# Altium schematic symbol library dungvh03-CERN_AnalogInterface.SchLib: 1053 symbols (part 7 of 12)
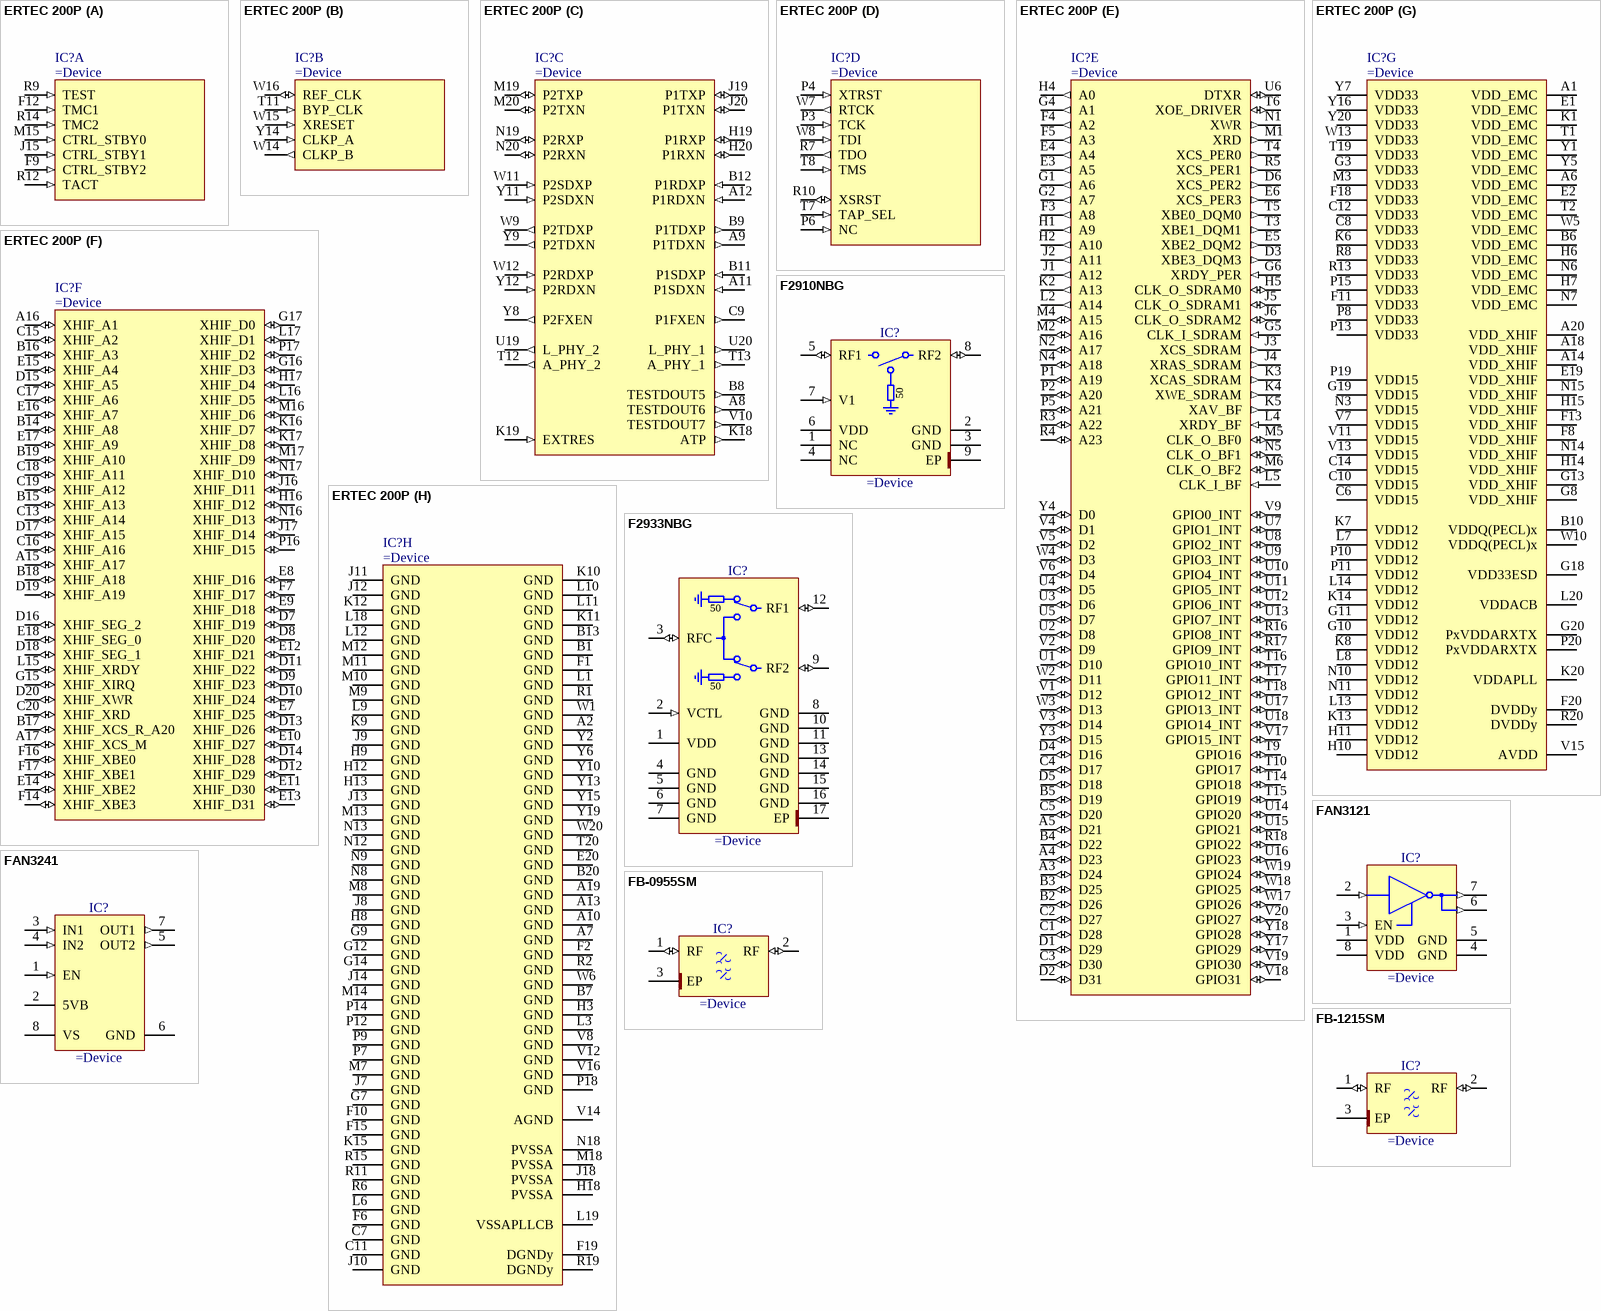
[diagram p73: symbols ERTEC 200P to FB-1215SM]

## ERTEC 200P
designator IC?
Enhanced Real-Time Ethernet Controller
part A pins: F9 CTRL_STBY2 (in), F12 TMC1 (in), J15 CTRL_STBY1 (in), M15 CTRL_STBY0 (in), R9 TEST (in), R12 TACT (in), R14 TMC2 (in)
part B pins: T11 BYP_CLK (in), W14 CLKP_B (out), W15 XRESET (in), W16 REF_CLK (io), Y14 CLKP_A (in)
part C pins: A8 TESTDOUT6 (out), A9 P1TDXN (out), A11 P1SDXN (in), A12 P1RDXN (in), B8 TESTDOUT5 (out), B9 P1TDXP (out), B11 P1SDXP (in), B12 P1RDXP (in), C9 P1FXEN (out), H19 P1RXP (io), H20 P1RXN (io), J19 P1TXP (io), J20 P1TXN (io), K18 ATP (out), K19 EXTRES (in), M19 P2TXP (io), M20 P2TXN (io), N19 P2RXP (io), N20 P2RXN (io), T12 A_PHY_2 (out), T13 A_PHY_1 (out), U19 L_PHY_2 (out), U20 L_PHY_1 (out), V10 TESTDOUT7 (out), W9 P2TDXP (out), W11 P2SDXP (in), W12 P2RDXP (in), Y8 P2FXEN (out), Y9 P2TDXN (out), Y11 P2SDXN (in), Y12 P2RDXN (in)
part D pins: P3 TCK (in), P4 XTRST (in), P6 NC (in), R7 TDO (out), R10 XSRST (io), T7 TAP_SEL (in), T8 TMS (in), W7 RTCK (out), W8 TDI (in)
part E pins: A3 D24 (io), A4 D23 (io), A5 D21 (io), B2 D26 (io), B3 D25 (io), B4 D22 (io), B5 D19 (io), C1 D28 (io), C2 D27 (io), C3 D30 (io), C4 D17 (io), C5 D20 (io), D1 D29 (io), D2 D31 (io), D3 XBE3_DQM3 (out), D4 D16 (io), D5 D18 (io), D6 XCS_PER2 (out), E3 A5 (out), E4 A4 (out), E5 XBE2_DQM2 (out), E6 XCS_PER3 (out), F3 A8 (out), F4 A2 (out), F5 A3 (out), G1 A6 (out), G2 A7 (out), G4 A1 (out), G5 CLK_I_SDRAM (in), G6 XRDY_PER (in), H1 A9 (out), H2 A10 (out), H4 A0 (out), H5 CLK_O_SDRAM0 (io), J1 A12 (out), J2 A11 (out), J3 XCS_SDRAM (out), J4 XRAS_SDRAM (out), J5 CLK_O_SDRAM1 (io), J6 CLK_O_SDRAM2 (io), K2 A13 (out), K3 XCAS_SDRAM (out), K4 XWE_SDRAM (out), K5 XAV_BF (out), L2 A14 (out), L4 XRDY_BF (in), L5 CLK_I_BF (in), M1 XRD (out), M2 A16 (io), M4 A15 (io), M5 CLK_O_BF0 (io), M6 CLK_O_BF2 (io), N1 XWR (out), N2 A17 (io), N4 A18 (io), N5 CLK_O_BF1 (io), P1 A19 (io), P2 A20 (io), P5 A21 (io), R3 A22 (io), R4 A23 (io), R5 XCS_PER1 (out), R16 GPIO8_INT (io), R17 GPIO9_INT (io), R18 GPIO22 (io), T3 XBE1_DQM1 (out), T4 XCS_PER0 (out), T5 XBE0_DQM0 (out), T6 XOE_DRIVER (io), T9 GPIO16 (io), T10 GPIO17 (io), T14 GPIO18 (io), T15 GPIO19 (io), T16 GPIO10_INT (io), T17 GPIO11_INT (io), T18 GPIO12_INT (io), U1 D10 (io), U2 D8 (io), U3 D6 (io), U4 D5 (io), U5 D7 (io), U6 DTXR (io), U7 GPIO1_INT (io), U8 GPIO2_INT (io), U9 GPIO3_INT (io), U10 GPIO4_INT (io), U11 GPIO5_INT (io), U12 GPIO6_INT (io), U13 GPIO7_INT (io), U14 GPIO20 (io), U15 GPIO21 (io), U16 GPIO23 (io), U17 GPIO13_INT (io), U18 GPIO14_INT (io), V1 D12 (io), V2 D9 (io), V3 D14 (io), V4 D1 (io), V5 D2 (io), V6 D4 (io), V9 GPIO0_INT (io), V17 GPIO15_INT (io), V18 GPIO31 (io), V19 GPIO30 (io), V20 GPIO27 (io), W2 D11 (io), W3 D13 (io), W4 D3 (io), W17 GPIO26 (io), W18 GPIO25 (io), W19 GPIO24 (io), Y3 D15 (io), Y4 D0 (io), Y17 GPIO29 (io), Y18 GPIO28 (io)
part F pins: A15 XHIF_A17 (io), A16 XHIF_A1 (io), A17 XHIF_XCS_M (io), B14 XHIF_A8 (io), B15 XHIF_A13 (io), B16 XHIF_A3 (io), B17 XHIF_XCS_R_A20 (io), B18 XHIF_A18 (io), B19 XHIF_A10 (io), C13 XHIF_A14 (io), C15 XHIF_A2 (io), C16 XHIF_A16 (io), C17 XHIF_A6 (io), C18 XHIF_A11 (io), C19 XHIF_A12 (io), C20 XHIF_XRD (io), D7 XHIF_D19 (io), D8 XHIF_D20 (io), D9 XHIF_D23 (io), D10 XHIF_D24 (io), D11 XHIF_D22 (io), D12 XHIF_D29 (io), D13 XHIF_D26 (io), D14 XHIF_D28 (io), D15 XHIF_A5 (io), D16 XHIF_SEG_2 (io), D17 XHIF_A15 (io), D18 XHIF_SEG_1 (io), D19 XHIF_A19 (io), D20 XHIF_XWR (io), E7 XHIF_D25 (io), E8 XHIF_D16 (io), E9 XHIF_D18 (io), E10 XHIF_D27 (io), E11 XHIF_D30 (io), E12 XHIF_D21 (io), E13 XHIF_D31 (io), E14 XHIF_XBE2 (io), E15 XHIF_A4 (io), E16 XHIF_A7 (io), E17 XHIF_A9 (io), E18 XHIF_SEG_0 (io), F7 XHIF_D17 (io), F14 XHIF_XBE3 (io), F16 XHIF_XBE0 (io), F17 XHIF_XBE1 (io), G15 XHIF_XIRQ (io), G16 XHIF_D3 (io), G17 XHIF_D0 (io), H16 XHIF_D12 (io), H17 XHIF_D4 (io), J16 XHIF_D11 (io), J17 XHIF_D14 (io), K16 XHIF_D7 (io), K17 XHIF_D8 (io), L15 XHIF_XRDY (io), L16 XHIF_D5 (io), L17 XHIF_D1 (io), M16 XHIF_D6 (io), M17 XHIF_D9 (io), N16 XHIF_D13 (io), N17 XHIF_D10 (io), P16 XHIF_D15 (io), P17 XHIF_D2 (io)
part G pins: A1 VDD_EMC (power), A6 VDD_EMC (power), A14 VDD_XHIF (power), A18 VDD_XHIF (power), A20 VDD_XHIF (power), B6 VDD_EMC (power), B10 VDDQ(PECL)x (power), C6 VDD15 (power), C8 VDD33 (power), C10 VDD15 (power), C12 VDD33 (power), C14 VDD15 (power), E1 VDD_EMC (power), E2 VDD_EMC (power), E19 VDD_XHIF (power), F8 VDD_XHIF (power), F11 VDD33 (power), F13 VDD_XHIF (power), F18 VDD33 (power), F20 DVDDy (power), G3 VDD33 (power), G8 VDD_XHIF (power), G10 VDD12 (power), G11 VDD12 (power), G13 VDD_XHIF (power), G18 VDD33ESD (power), G19 VDD15 (power), G20 PxVDDARXTX (power), H6 VDD_EMC (power), H7 VDD_EMC (power), H10 VDD12 (power), H11 VDD12 (power), H14 VDD_XHIF (power), H15 VDD_XHIF (power), K1 VDD_EMC (power), K6 VDD33 (power), K7 VDD12 (power), K8 VDD12 (power), K13 VDD12 (power), K14 VDD12 (power), K20 VDDAPLL (power), L7 VDD12 (power), L8 VDD12 (power), L13 VDD12 (power), L14 VDD12 (power), L20 VDDACB (power), M3 VDD33 (power), N3 VDD15 (power), N6 VDD_EMC (power), N7 VDD_EMC (power), N10 VDD12 (power), N11 VDD12 (power), N14 VDD_XHIF (power), N15 VDD_XHIF (power), P8 VDD33 (power), P10 VDD12 (power), P11 VDD12 (power), P13 VDD33 (power), P15 VDD33 (power), P19 VDD15 (power), P20 PxVDDARXTX (power), R8 VDD33 (power), R13 VDD33 (power), R20 DVDDy (power), T1 VDD_EMC (power), T2 VDD_EMC (power), T19 VDD33 (power), V7 VDD15 (power), V11 VDD15 (power), V13 VDD15 (power), V15 AVDD (power), W5 VDD_EMC (power), W10 VDDQ(PECL)x (power), W13 VDD33 (power), Y1 VDD_EMC (power), Y5 VDD_EMC (power), Y7 VDD33 (power), Y16 VDD33 (power), Y20 VDD33 (power)
part H pins: A2 GND (power), A7 GND (power), A10 GND (power), A13 GND (power), A19 GND (power), B1 GND (power), B7 GND (power), B13 GND (power), B20 GND (power), C7 GND (power), C11 GND (power), E20 GND (power), F1 GND (power), F2 GND (power), F6 GND (power), F10 GND (power), F15 GND (power), F19 DGNDy (power), G7 GND (power), G9 GND (power), G12 GND (power), G14 GND (power), H3 GND (power), H8 GND (power), H9 GND (power), H12 GND (power), H13 GND (power), H18 PVSSA (power), J7 GND (power), J8 GND (power), J9 GND (power), J10 GND (power), J11 GND (power), J12 GND (power), J13 GND (power), J14 GND (power), J18 PVSSA (power), K9 GND (power), K10 GND (power), K11 GND (power), K12 GND (power), K15 GND (power), L1 GND (power), L3 GND (power), L6 GND (power), L9 GND (power), L10 GND (power), L11 GND (power), L12 GND (power), L18 GND (power), L19 VSSAPLLCB (power), M7 GND (power), M8 GND (power), M9 GND (power), M10 GND (power), M11 GND (power), M12 GND (power), M13 GND (power), M14 GND (power), M18 PVSSA (power), N8 GND (power), N9 GND (power), N12 GND (power), N13 GND (power), N18 PVSSA (power), P7 GND (power), P9 GND (power), P12 GND (power), P14 GND (power), P18 GND (power), R1 GND (power), R2 GND (power), R6 GND (power), R11 GND (power), R15 GND (power), R19 DGNDy (power), T20 GND (power), V8 GND (power), V12 GND (power), V14 AGND (power), V16 GND (power), W1 GND (power), W6 GND (power), W20 GND (power), Y2 GND (power), Y6 GND (power), Y10 GND (power), Y13 GND (power), Y15 GND (power), Y19 GND (power)

## F2910NBG
designator IC?
High Reliability SPST Absorptive RF Switch with Kz
pins: 1 NC, 2 GND (power), 3 GND (power), 4 NC, 5 RF1 (io), 6 VDD (power), 7 V1 (in), 8 RF2 (io), 9 EP (power)
2 alternate drawings of the same symbol
text: 50

## F2933NBG
designator IC?
High Reliability SP2T Absorptive RF Switch
pins: 1 VDD (power), 2 VCTL (in), 3 RFC (io), 4 GND (power), 5 GND (power), 6 GND (power), 7 GND (power), 8 GND (power), 9 RF2 (io), 10 GND (power), 11 GND (power), 12 RF1 (io), 13 GND (power), 14 GND (power), 15 GND (power), 16 GND (power), 17 EP (power)
2 alternate drawings of the same symbol
text: 50

## FAN3121
designator IC?
Single 9A High-Speed, Low-Side Gate Driver
pins: 1 VDD (power), 2 IN (in), 3 EN (in), 4 GND (power), 5 GND (power), 6 ~{OUT} (out), 7 ~{OUT} (out), 8 VDD (power)

## FAN3241
designator IC?
60V Smart Dual-Coil Relay Driver
pins: 1 EN (in), 2 5VB, 3 IN1 (in), 4 IN2 (in), 5 OUT2 (out), 6 GND (power), 7 OUT1 (out), 8 VS (power)

## FB-0955SM
designator IC?
9.55GHz Microwave Surface Mount Band Pass Filter
pins: 1 RF (io), 2 RF (io), 3 EP (power)

## FB-1215SM
designator IC?
12.15GHz Microwave Surface Mount Band Pass Filter
pins: 1 RF (io), 2 RF (io), 3 EP (power)

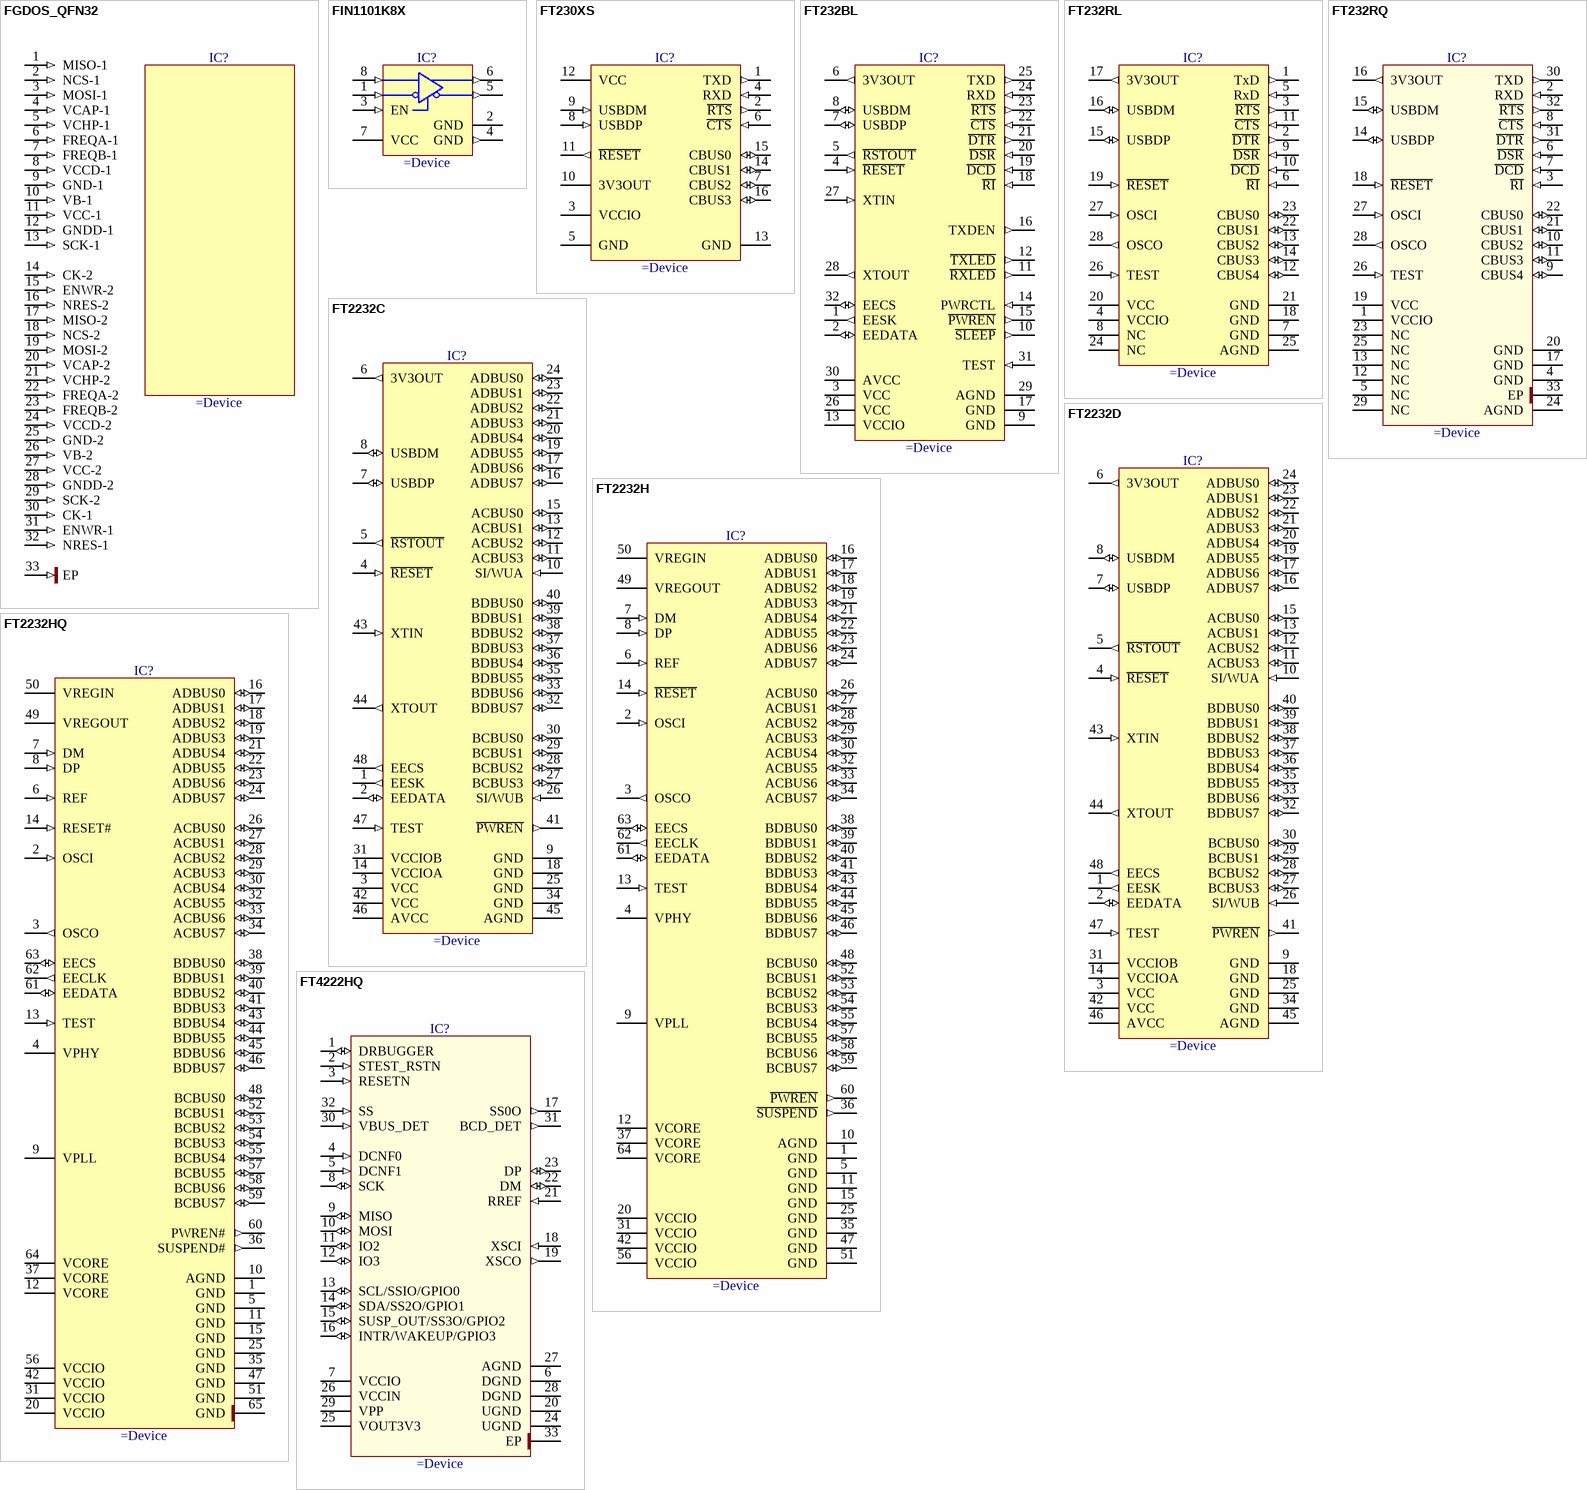
[diagram p34: symbols FGDOS_QFN32 to FT4222HQ]

## FGDOS_QFN32
designator IC?
Floating Gate Dosimeter (FGDOS)
pins: 1 MISO-1 (in), 2 NCS-1 (in), 3 MOSI-1 (in), 4 VCAP-1 (in), 5 VCHP-1 (in), 6 FREQA-1 (in), 7 FREQB-1 (in), 8 VCCD-1 (in), 9 GND-1 (in), 10 VB-1 (in), 11 VCC-1 (in), 12 GNDD-1 (in), 13 SCK-1 (in), 14 CK-2 (in), 15 ENWR-2 (in), 16 NRES-2 (in), 17 MISO-2 (in), 18 NCS-2 (in), 19 MOSI-2 (in), 20 VCAP-2 (in), 21 VCHP-2 (in), 22 FREQA-2 (in), 23 FREQB-2 (in), 24 VCCD-2 (in), 25 GND-2 (in), 26 VB-2 (in), 27 VCC-2 (in), 28 GNDD-2 (in), 29 SCK-2 (in), 30 CK-1 (in), 31 ENWR-1 (in), 32 NRES-1 (in), 33 EP (in)

## FIN1101K8X
designator IC?
LVDS Single Port High Speed Repeater
pins: 1 RIN- (in), 2 GND (power), 3 EN (in), 4 GND (out), 5 DOUT- (out), 6 DOUT+ (out), 7 VCC (power), 8 RIN+ (in)

## FT230XS
designator IC?
USB To Basic UART IC
pins: 1 TXD (out), 2 ~{RTS} (out), 3 VCCIO (power), 4 RXD (in), 5 GND (power), 6 ~{CTS} (in), 7 CBUS2 (io), 8 USBDP (in), 9 USBDM (in), 10 3V3OUT (power), 11 ~{RESET} (out), 12 VCC (power), 13 GND (power), 14 CBUS1 (io), 15 CBUS0 (io), 16 CBUS3 (io)

## FT232BL
designator IC?
USB To Serial UART Device
pins: 1 EESK (out), 2 EEDATA (io), 3 VCC (power), 4 ~{RESET} (in), 5 ~{RSTOUT} (out), 6 3V3OUT (out), 7 USBDP (io), 8 USBDM (io), 9 GND (power), 10 ~{SLEEP} (out), 11 ~{RXLED} (out), 12 ~{TXLED} (out), 13 VCCIO (power), 14 PWRCTL (in), 15 ~{PWREN} (out), 16 TXDEN (out), 17 GND (power), 18 ~{RI} (in), 19 ~{DCD} (in), 20 ~{DSR} (in), 21 ~{DTR} (out), 22 ~{CTS} (in), 23 ~{RTS} (out), 24 RXD (in), 25 TXD (out), 26 VCC (power), 27 XTIN (in), 28 XTOUT (out), 29 AGND (power), 30 AVCC (power), 31 TEST (in), 32 EECS (io)

## FT232RL
designator IC?
USB to serial UART Interface
pins: 1 TxD (out), 2 ~{DTR} (out), 3 ~{RTS} (out), 4 VCCIO (power), 5 RxD (in), 6 ~{RI} (in), 7 GND (power), 8 NC, 9 ~{DSR} (in), 10 ~{DCD} (in), 11 ~{CTS} (in), 12 CBUS4 (io), 13 CBUS2 (io), 14 CBUS3 (io), 15 USBDP (io), 16 USBDM (io), 17 3V3OUT (out), 18 GND (power), 19 ~{RESET} (in), 20 VCC (power), 21 GND (power), 22 CBUS1 (io), 23 CBUS0 (io), 24 NC, 25 AGND (power), 26 TEST (in), 27 OSCI (in), 28 OSCO (out)

## FT232RQ
designator IC?
USB to serial UART Interface
pins: 1 VCCIO (power), 2 RXD (in), 3 ~{RI} (in), 4 GND (power), 5 NC, 6 ~{DSR} (in), 7 ~{DCD} (in), 8 ~{CTS} (in), 9 CBUS4 (io), 10 CBUS2 (io), 11 CBUS3 (io), 12 NC, 13 NC, 14 USBDP (io), 15 USBDM (io), 16 3V3OUT (out), 17 GND (power), 18 ~{RESET} (in), 19 VCC (power), 20 GND (power), 21 CBUS1 (io), 22 CBUS0 (io), 23 NC, 24 AGND (power), 25 NC, 26 TEST (in), 27 OSCI (in), 28 OSCO (out), 29 NC, 30 TXD (out), 31 ~{DTR} (out), 32 ~{RTS} (out), 33 EP (power)

## FT2232C
designator IC?
Dual USB UART / FIFO I.C.
pins: 1 EESK (out), 2 EEDATA (io), 3 VCC (power), 4 ~{RESET} (in), 5 ~{RSTOUT} (out), 6 3V3OUT (out), 7 USBDP (io), 8 USBDM (io), 9 GND (power), 10 SI/WUA (in), 11 ACBUS3 (io), 12 ACBUS2 (io), 13 ACBUS1 (io), 14 VCCIOA (power), 15 ACBUS0 (io), 16 ADBUS7 (io), 17 ADBUS6 (io), 18 GND (power), 19 ADBUS5 (io), 20 ADBUS4 (io), 21 ADBUS3 (io), 22 ADBUS2 (io), 23 ADBUS1 (io), 24 ADBUS0 (io), 25 GND (power), 26 SI/WUB (in), 27 BCBUS3 (io), 28 BCBUS2 (io), 29 BCBUS1 (io), 30 BCBUS0 (io), 31 VCCIOB (power), 32 BDBUS7 (io), 33 BDBUS6 (io), 34 GND (power), 35 BDBUS5 (io), 36 BDBUS4 (io), 37 BDBUS3 (io), 38 BDBUS2 (io), 39 BDBUS1 (io), 40 BDBUS0 (io), 41 ~{PWREN} (out), 42 VCC (power), 43 XTIN (in), 44 XTOUT (out), 45 AGND (power), 46 AVCC (power), 47 TEST (in), 48 EECS (out)

## FT2232D
designator IC?
Dual USB UART / FIFO I.C.
pins: 1 EESK (out), 2 EEDATA (io), 3 VCC (power), 4 ~{RESET} (in), 5 ~{RSTOUT} (out), 6 3V3OUT (out), 7 USBDP (io), 8 USBDM (io), 9 GND (power), 10 SI/WUA (in), 11 ACBUS3 (io), 12 ACBUS2 (io), 13 ACBUS1 (io), 14 VCCIOA (power), 15 ACBUS0 (io), 16 ADBUS7 (io), 17 ADBUS6 (io), 18 GND (power), 19 ADBUS5 (io), 20 ADBUS4 (io), 21 ADBUS3 (io), 22 ADBUS2 (io), 23 ADBUS1 (io), 24 ADBUS0 (io), 25 GND (power), 26 SI/WUB (in), 27 BCBUS3 (io), 28 BCBUS2 (io), 29 BCBUS1 (io), 30 BCBUS0 (io), 31 VCCIOB (power), 32 BDBUS7 (io), 33 BDBUS6 (io), 34 GND (power), 35 BDBUS5 (io), 36 BDBUS4 (io), 37 BDBUS3 (io), 38 BDBUS2 (io), 39 BDBUS1 (io), 40 BDBUS0 (io), 41 ~{PWREN} (out), 42 VCC (power), 43 XTIN (in), 44 XTOUT (out), 45 AGND (power), 46 AVCC (power), 47 TEST (in), 48 EECS (out)

## FT2232H
designator IC?
Dual High Speed USB to Multipurpose UART/FIFO IC
pins: 1 GND (power), 2 OSCI (in), 3 OSCO (out), 4 VPHY (power), 5 GND (power), 6 REF (in), 7 DM (in), 8 DP (in), 9 VPLL (power), 10 AGND (power), 11 GND (power), 12 VCORE (power), 13 TEST (in), 14 ~{RESET} (in), 15 GND (power), 16 ADBUS0 (io), 17 ADBUS1 (io), 18 ADBUS2 (io), 19 ADBUS3 (io), 20 VCCIO (power), 21 ADBUS4 (io), 22 ADBUS5 (io), 23 ADBUS6 (io), 24 ADBUS7 (io), 25 GND (power), 26 ACBUS0 (io), 27 ACBUS1 (io), 28 ACBUS2 (io), 29 ACBUS3 (io), 30 ACBUS4 (io), 31 VCCIO (power), 32 ACBUS5 (io), 33 ACBUS6 (io), 34 ACBUS7 (io), 35 GND (power), 36 ~{SUSPEND} (out), 37 VCORE (power), 38 BDBUS0 (io), 39 BDBUS1 (io), 40 BDBUS2 (io), 41 BDBUS3 (io), 42 VCCIO (power), 43 BDBUS4 (io), 44 BDBUS5 (io), 45 BDBUS6 (io), 46 BDBUS7 (io), 47 GND (power), 48 BCBUS0 (io), 49 VREGOUT (power), 50 VREGIN (power), 51 GND (power), 52 BCBUS1 (io), 53 BCBUS2 (io), 54 BCBUS3 (io), 55 BCBUS4 (io), 56 VCCIO (power), 57 BCBUS5 (io), 58 BCBUS6 (io), 59 BCBUS7 (io), 60 ~{PWREN} (out), 61 EEDATA (io), 62 EECLK (out), 63 EECS (io), 64 VCORE (power)

## FT2232HQ
designator IC?
Dual High Speed USB To Multipurpose UART/FIFO IC, 64-pin QFN, Tray
pins: 1 GND (power), 2 OSCI (in), 3 OSCO (out), 4 VPHY (power), 5 GND (power), 6 REF (in), 7 DM (in), 8 DP (in), 9 VPLL (power), 10 AGND (power), 11 GND (power), 12 VCORE (power), 13 TEST (in), 14 RESET# (in), 15 GND (power), 16 ADBUS0 (io), 17 ADBUS1 (io), 18 ADBUS2 (io), 19 ADBUS3 (io), 20 VCCIO (power), 21 ADBUS4 (io), 22 ADBUS5 (io), 23 ADBUS6 (io), 24 ADBUS7 (io), 25 GND (power), 26 ACBUS0 (io), 27 ACBUS1 (io), 28 ACBUS2 (io), 29 ACBUS3 (io), 30 ACBUS4 (io), 31 VCCIO (power), 32 ACBUS5 (io), 33 ACBUS6 (io), 34 ACBUS7 (io), 35 GND (power), 36 SUSPEND# (out), 37 VCORE (power), 38 BDBUS0 (io), 39 BDBUS1 (io), 40 BDBUS2 (io), 41 BDBUS3 (io), 42 VCCIO (power), 43 BDBUS4 (io), 44 BDBUS5 (io), 45 BDBUS6 (io), 46 BDBUS7 (io), 47 GND (power), 48 BCBUS0 (io), 49 VREGOUT (power), 50 VREGIN (power), 51 GND (power), 52 BCBUS1 (io), 53 BCBUS2 (io), 54 BCBUS3 (io), 55 BCBUS4 (io), 56 VCCIO (power), 57 BCBUS5 (io), 58 BCBUS6 (io), 59 BCBUS7 (io), 60 PWREN# (out), 61 EEDATA (io), 62 EECLK (out), 63 EECS (io), 64 VCORE (power), 65 GND (power)

## FT4222HQ
designator IC?
USB2.0 to QuadSPI/I2C Bridge IC
pins: 1 DRBUGGER (io), 2 STEST_RSTN (in), 3 RESETN (in), 4 DCNF0 (in), 5 DCNF1 (in), 6 DGND (power), 7 VCCIO (power), 8 SCK (io), 9 MISO (io), 10 MOSI (io), 11 IO2 (io), 12 IO3 (io), 13 SCL/SSIO/GPIO0 (io), 14 SDA/SS2O/GPIO1 (io), 15 SUSP_OUT/SS3O/GPIO2 (io), 16 INTR/WAKEUP/GPIO3 (io), 17 SS0O (out), 18 XSCI (in), 19 XSCO (out), 20 UGND (power), 21 RREF (in), 22 DM (io), 23 DP (io), 24 UGND (power), 25 VOUT3V3 (power), 26 VCCIN (power), 27 AGND (power), 28 DGND (power), 29 VPP (power), 30 VBUS_DET (in), 31 BCD_DET (out), 32 SS (in), 33 EP (power)

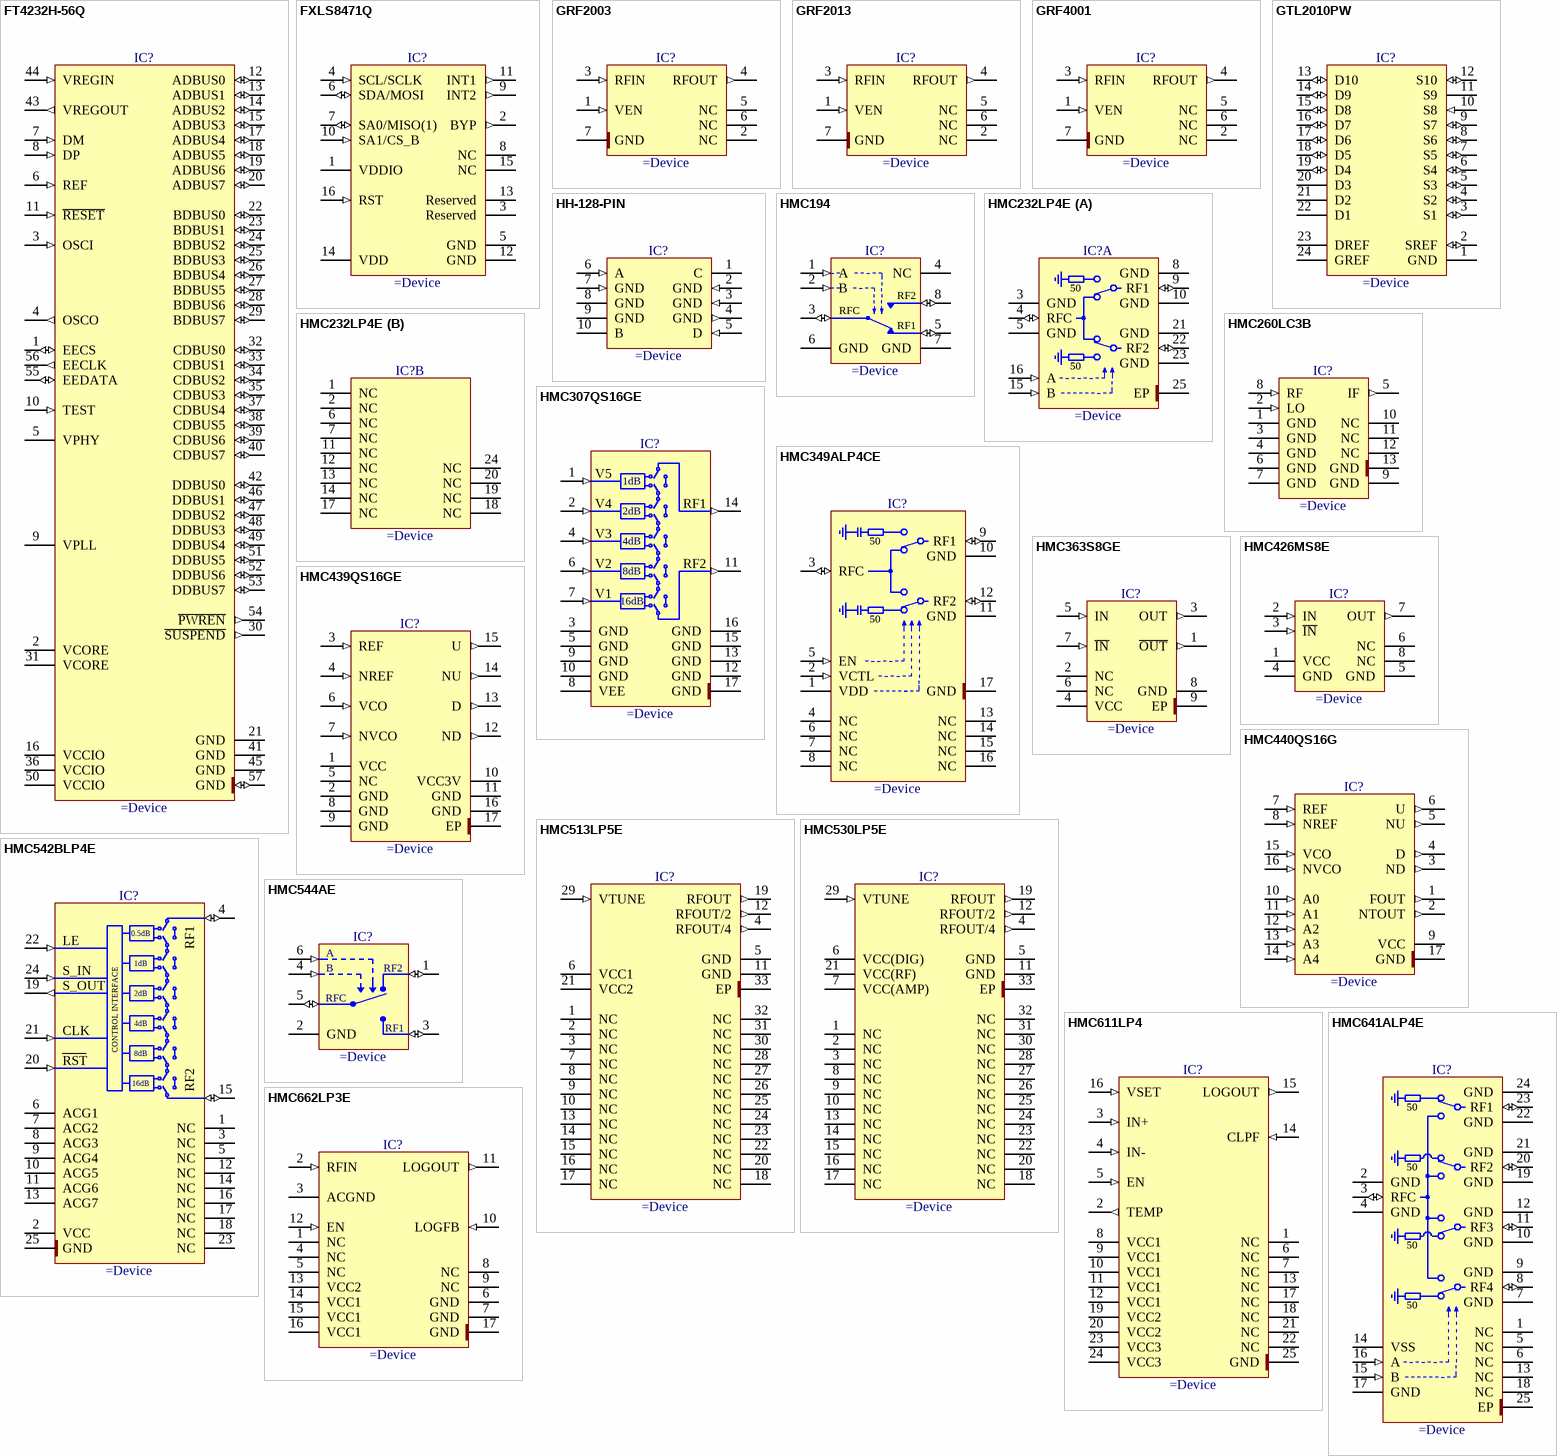
[diagram p35: symbols FT4232H-56Q to HMC662LP3E]

## FT4232H-56Q
designator IC?
Quad High Speed USB to Multipurpose UART/MPSSE IC
pins: 1 EECS (io), 2 VCORE (power), 3 OSCI (in), 4 OSCO (out), 5 VPHY (power), 6 REF (in), 7 DM (in), 8 DP (in), 9 VPLL (power), 10 TEST (in), 11 ~{RESET} (in), 12 ADBUS0 (io), 13 ADBUS1 (io), 14 ADBUS2 (io), 15 ADBUS3 (io), 16 VCCIO (power), 17 ADBUS4 (io), 18 ADBUS5 (io), 19 ADBUS6 (io), 20 ADBUS7 (io), 21 GND (power), 22 BDBUS0 (io), 23 BDBUS1 (io), 24 BDBUS2 (io), 25 BDBUS3 (io), 26 BDBUS4 (io), 27 BDBUS5 (io), 28 BDBUS6 (io), 29 BDBUS7 (io), 30 ~{SUSPEND} (out), 31 VCORE (power), 32 CDBUS0 (io), 33 CDBUS1 (io), 34 CDBUS2 (io), 35 CDBUS3 (io), 36 VCCIO (power), 37 CDBUS4 (io), 38 CDBUS5 (io), 39 CDBUS6 (io), 40 CDBUS7 (io), 41 GND (power), 42 DDBUS0 (io), 43 VREGOUT (out), 44 VREGIN (in), 45 GND (power), 46 DDBUS1 (io), 47 DDBUS2 (io), 48 DDBUS3 (io), 49 DDBUS4 (io), 50 VCCIO (power), 51 DDBUS5 (io), 52 DDBUS6 (io), 53 DDBUS7 (io), 54 ~{PWREN} (out), 55 EEDATA (io), 56 EECLK (out), 57 GND (io)

## FXLS8471Q
designator IC?
±2g/±4g/±8g, Low g, 14-Bit Digital Accelerometer
pins: 1 VDDIO (power) "Interface power supply", 2 BYP (out) "Internal regulator output bypass capacitor connection", 3 Reserved (power) "Test reserved, connect to GND", 4 SCL/SCLK (in) "I2C Serial Clock/SPI Clock", 5 GND (power) "Ground", 6 SDA/MOSI (io) "I2C Serial Data/SPI Master Out, Slave In", 7 SA0/MISO(1) (io) "I2C address selection bit 0/SPI Master In, Slave Out", 8 NC "Internally not connected", 9 INT2 (out) "Interrupt 2", 10 SA1/CS_B (in) "I2C address selection bit 1(2)/SPI Chip Select (active low)", 11 INT1 (out) "Interrupt 1", 12 GND (power) "Ground", 13 Reserved (power) "Test reserved, connect to GND", 14 VDD (power) "Power supply", 15 NC "Internally not connected", 16 RST (in) "Reset input, active high. Connect to GND if unused"

## GRF2003
designator IC?
Broadband Gain Block, 0.1-10.0GHz
pins: 1 VEN (in), 2 NC, 3 RFIN (in), 4 RFOUT (out), 5 NC, 6 NC, 7 GND (power)

## GRF2013
designator IC?
Broadband Linear Gain Block, 0.05 to 8.0 GHz
pins: 1 VEN (in), 2 NC, 3 RFIN (in), 4 RFOUT (out), 5 NC, 6 NC, 7 GND (power)

## GRF4001
designator IC?
Broadband LNA/Linear Driver, 0.1-6.0GHz
pins: 1 VEN (in), 2 NC, 3 RFIN (in), 4 RFOUT (out), 5 NC, 6 NC, 7 GND (power)

## GTL2010PW
designator IC?
10-Bit Bidirectional Low Voltage Translator
pins: 1 GND (power), 2 SREF (io), 3 S1 (io), 4 S2 (io), 5 S3 (io), 6 S4 (io), 7 S5 (io), 8 S6 (io), 9 S7 (io), 10 S8 (in), 11 S9 (power), 12 S10 (io), 13 D10 (io), 14 D9 (io), 15 D8 (io), 16 D7 (io), 17 D6 (io), 18 D5 (io), 19 D4 (io), 20 D3 (power), 21 D2 (power), 22 D1 (power), 23 DREF (power), 24 GREF (power)

## HH-128-PIN
designator IC?
20 - 2000MHz Flatpack Hybrid Junction
pins: 1 C (power), 2 GND (in), 3 GND (in), 4 GND (out), 5 D (in), 6 A (in), 7 GND (in), 8 GND (power), 9 GND (power), 10 B (power)

## HMC194
designator IC?
DC-3GHz GaAs MMIC SPDT Switch
pins: 1 A (in), 2 B (in), 3 RFC (io), 4 NC, 5 RF1 (io), 6 GND (power), 7 GND (power), 8 RF2 (io)

## HMC232LP4E
designator IC?
DC-12GHz GaAs MMIC SPDT Non-Reflective Switch
part A pins: 3 GND (power), 4 RFC (io), 5 GND (power), 8 GND (power), 9 RF1 (io), 10 GND (power), 15 B (in), 16 A (in), 21 GND (power), 22 RF2 (io), 23 GND (power), 25 EP (power)
part B pins: 1 NC, 2 NC, 6 NC, 7 NC, 11 NC, 12 NC, 13 NC, 14 NC, 17 NC, 18 NC, 19 NC, 20 NC, 24 NC
2 alternate drawings of the same symbol
part A text: 50

## HMC260LC3B
designator IC?
GaAs MMIC Fundamental Mixer, 14 - 26 GHz
pins: 1 GND (power), 2 LO (in), 3 GND (power), 4 GND (power), 5 IF (out), 6 GND (power), 7 GND (power), 8 RF (in), 9 GND (power), 10 NC, 11 NC, 12 NC, 13 GND (power)

## HMC307QS16GE
designator IC?
DC-4GHz, 1dB LSB GaAs MMIC 5-BIT Digital Attenuator
pins: 1 V5 (in), 2 V4 (in), 3 GND (power), 4 V3 (in), 5 GND (power), 6 V2 (in), 7 V1 (in), 8 VEE (power), 9 GND (power), 10 GND (power), 11 RF2 (out), 12 GND (power), 13 GND (power), 14 RF1 (out), 15 GND (power), 16 GND (power), 17 GND (power)
text: 1dB; 2dB; 4dB; 8dB; 16dB

## HMC349ALP4CE
designator IC?
DC-4GHz High Isolation SPDT Non-Reflective Switch
pins: 1 VDD (power), 2 VCTL (in), 3 RFC (io), 4 NC, 5 EN (in), 6 NC, 7 NC, 8 NC, 9 RF1 (io), 10 GND (power), 11 GND (power), 12 RF2 (io), 13 NC, 14 NC, 15 NC, 16 NC, 17 GND (power)
2 alternate drawings of the same symbol
text: 50

## HMC363S8GE
designator IC?
SMT GaAs HBT MMIC Divide-by-8, DC to 12GHz
pins: 1 ~{OUT} (out), 2 NC, 3 OUT (out), 4 VCC (power), 5 IN (in), 6 NC, 7 ~{IN} (in), 8 GND (power), 9 EP (power)

## HMC426MS8E
designator IC?
SiGe MMIC Divide-by-4 Static Dividers, DC - 4 GHz
pins: 1 VCC (power), 2 IN (in), 3 ~{IN} (in), 4 GND (power), 5 GND (power), 6 NC, 7 OUT (out), 8 NC

## HMC439QS16GE
designator IC?
Digital Phase-Frequency Detector SMT, 0.01 - 1.3 GHz
pins: 1 VCC (power), 2 GND (power), 3 REF (in), 4 NREF (in), 5 NC, 6 VCO (in), 7 NVCO (in), 8 GND (power), 9 GND (power), 10 VCC3V (power), 11 GND (power), 12 ND (out), 13 D (out), 14 NU (out), 15 U (out), 16 GND (power), 17 EP (power)

## HMC440QS16G
designator IC?
2.8 GHz Integer-N Synthesizer (N = 2 - 32)
pins: 1 FOUT (out), 2 NTOUT (out), 3 ND (out), 4 D (out), 5 NU (out), 6 U (out), 7 REF (in), 8 NREF (in), 9 VCC (power), 10 A0 (in), 11 A1 (in), 12 A2 (in), 13 A3 (in), 14 A4 (in), 15 VCO (in), 16 NVCO (in), 17 GND (power)

## HMC513LP5E
designator IC?
MMIC VCO With Half Frequency Output & Divider-by-4, 10.43 - 11.46 GHz
pins: 1 NC, 2 NC, 3 NC, 4 RFOUT/4 (out), 5 GND (power), 6 VCC1 (power), 7 NC, 8 NC, 9 NC, 10 NC, 11 GND (power), 12 RFOUT/2 (out), 13 NC, 14 NC, 15 NC, 16 NC, 17 NC, 18 NC, 19 RFOUT (out), 20 NC, 21 VCC2 (power), 22 NC, 23 NC, 24 NC, 25 NC, 26 NC, 27 NC, 28 NC, 29 VTUNE (in), 30 NC, 31 NC, 32 NC, 33 EP (power)

## HMC530LP5E
designator IC?
MMIC VCO With Half Frequency Output & Divider-by-4, 9.5 - 10.8GHz
pins: 1 NC, 2 NC, 3 NC, 4 RFOUT/4 (out), 5 GND (power), 6 VCC(DIG) (power), 7 VCC(AMP) (power), 8 NC, 9 NC, 10 NC, 11 GND (power), 12 RFOUT/2 (out), 13 NC, 14 NC, 15 NC, 16 NC, 17 NC, 18 NC, 19 RFOUT (out), 20 NC, 21 VCC(RF) (power), 22 NC, 23 NC, 24 NC, 25 NC, 26 NC, 27 NC, 28 NC, 29 VTUNE (in), 30 NC, 31 NC, 32 NC, 33 EP (power)

## HMC542BLP4E
designator IC?
0.5dB LSB GaAs MMIC 6-bit Digital Serial Control Attenuator, DC - 4GHz
pins: 1 NC, 2 VCC (power), 3 NC, 4 RF1 (io), 5 NC, 6 ACG1, 7 ACG2, 8 ACG3, 9 ACG4, 10 ACG5, 11 ACG6, 12 NC, 13 ACG7, 14 NC, 15 RF2 (io), 16 NC, 17 NC, 18 NC, 19 SERIAL_OUTPUT (out), 20 ~{RESET} (in), 21 SHIFT_CLOCK (in), 22 LATCH_ENABLE (in), 23 NC, 24 SERIAL_INPUT (in), 25 GND (power)
text: 0.5dB; LE; 1dB; S_IN; S_OUT; 2dB; CONTROL INTERFACE; 4dB; CLK; 8dB; RST; 16dB

## HMC544AE
designator IC?
GaAs MMIC T/R Switch DC - 4 GHz
pins: 1 RF2 (io), 2 GND (power), 3 RF1 (io), 4 B (in), 5 RFC (io), 6 A (in)

## HMC611LP4
designator IC?
60 dB, Logarithmic Detector/ Controller, 1 to 10GHz
pins: 1 NC, 2 TEMP (out), 3 IN+ (in), 4 IN- (in), 5 EN (in), 6 NC, 7 NC, 8 VCC1 (power), 9 VCC1 (power), 10 VCC1 (power), 11 VCC1 (power), 12 VCC1 (power), 13 NC, 14 CLPF (in), 15 LOGOUT (out), 16 VSET (in), 17 NC, 18 NC, 19 VCC2 (power), 20 VCC2 (power), 21 NC, 22 NC, 23 VCC3 (power), 24 VCC3 (power), 25 GND (power)

## HMC641ALP4E
designator IC?
GaAs MMIC SP4T Non-Reflective Switch, DC - 20 GHz
pins: 1 NC, 2 GND (power), 3 RFC (io), 4 GND (power), 5 NC, 6 NC, 7 GND (power), 8 RF4 (io), 9 GND (power), 10 GND (power), 11 RF3 (io), 12 GND (power), 13 NC, 14 VSS (power), 15 B (in), 16 A (in), 17 GND (power), 18 NC, 19 GND (power), 20 RF2 (io), 21 GND (power), 22 GND (power), 23 RF1 (io), 24 GND (power), 25 EP (power)
2 alternate drawings of the same symbol
text: 50

## HMC662LP3E
designator IC?
54 dB, Logarithmic Detector, 8 to 30GHz
pins: 1 NC, 2 RFIN (in), 3 ACGND (power), 4 NC, 5 NC, 6 GND (power), 7 GND (power), 8 NC, 9 NC, 10 LOGFB (in), 11 LOGOUT (out), 12 EN (in), 13 VCC2 (power), 14 VCC1 (power), 15 VCC1 (power), 16 VCC1 (power), 17 GND (power)

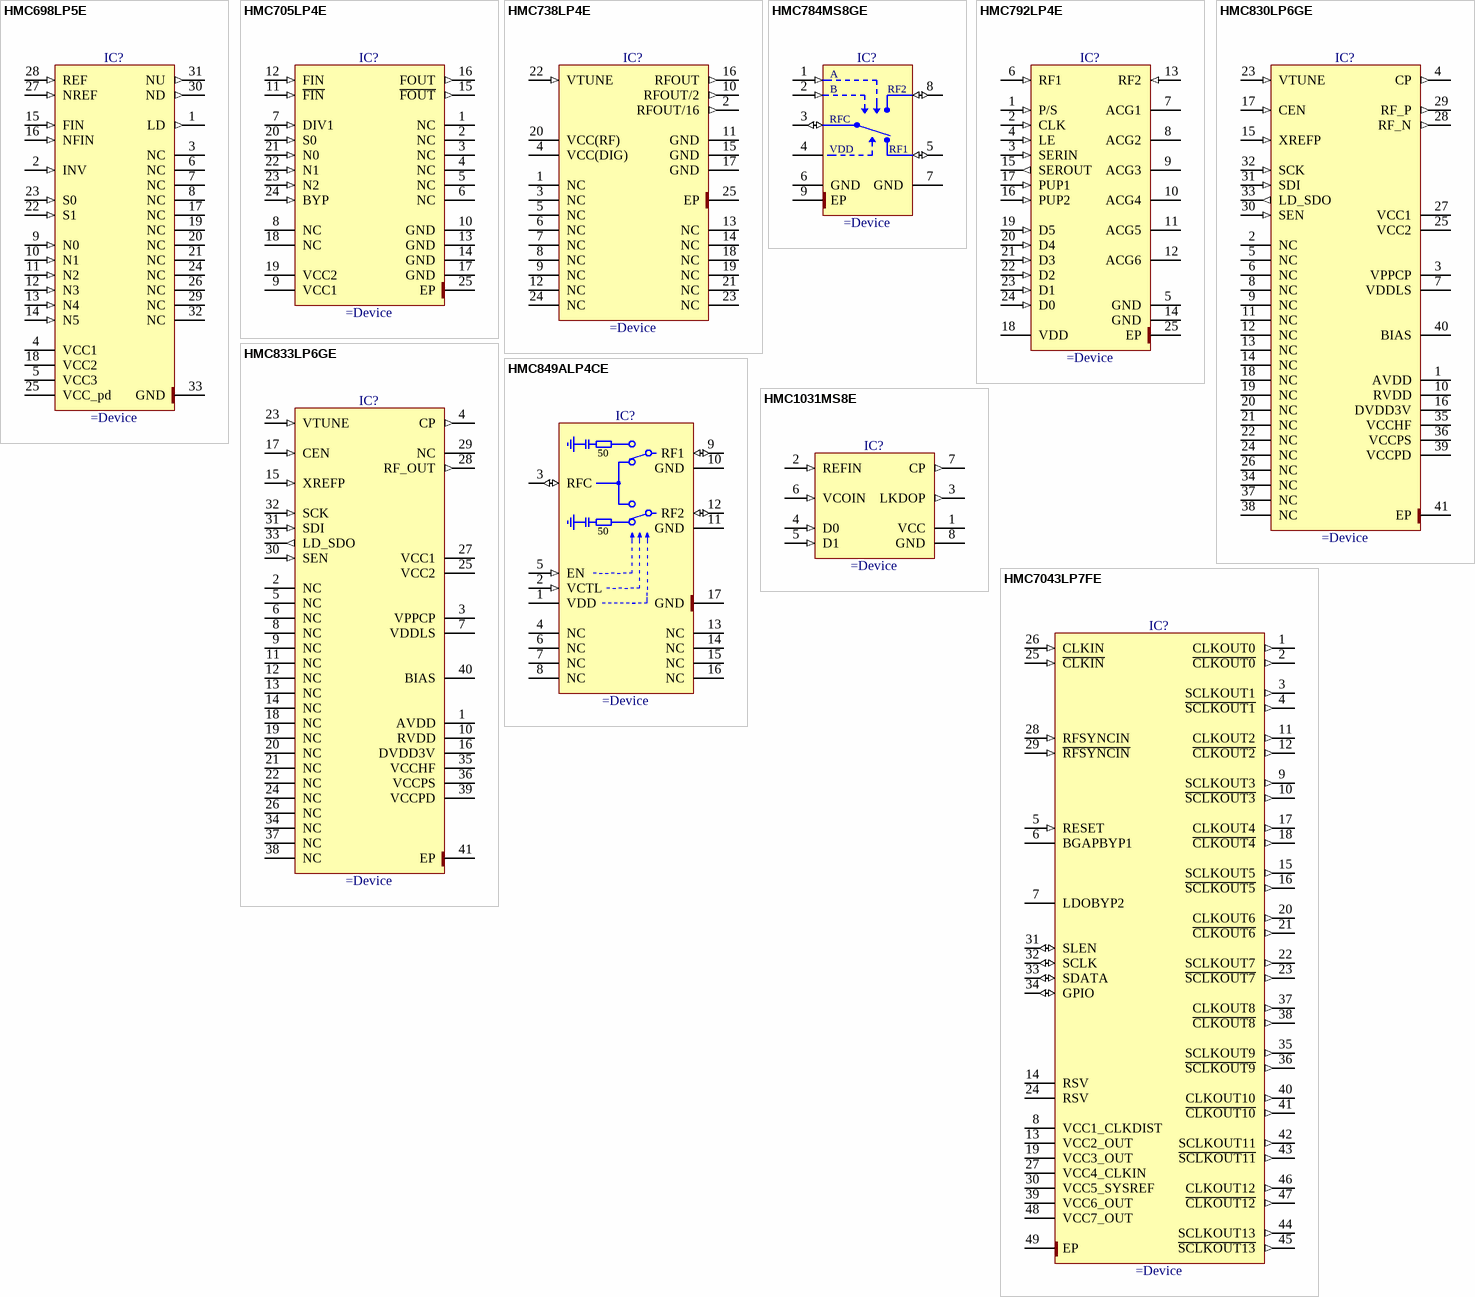
[diagram p36: symbols HMC698LP5E to HMC7043LP7FE]

## HMC698LP5E
designator IC?
7 GHz Integer N Synthesizer (N = 12 - 259)
pins: 1 LD (out), 2 INV (in), 3 NC, 4 VCC1 (power), 5 VCC3 (power), 6 NC, 7 NC, 8 NC, 9 N0 (in), 10 N1 (in), 11 N2 (in), 12 N3 (in), 13 N4 (in), 14 N5 (in), 15 FIN (in), 16 NFIN (in), 17 NC, 18 VCC2 (power), 19 NC, 20 NC, 21 NC, 22 S1 (in), 23 S0 (in), 24 NC, 25 VCC_pd (power), 26 NC, 27 NREF (in), 28 REF (in), 29 NC, 30 ND (out), 31 NU (out), 32 NC, 33 GND (power)

## HMC705LP4E
designator IC?
6.5GHz Programmable Divider (N=1 - 17)
pins: 1 NC, 2 NC, 3 NC, 4 NC, 5 NC, 6 NC, 7 DIV1 (in), 8 NC, 9 VCC1 (power), 10 GND (power), 11 ~{FIN} (in), 12 FIN (in), 13 GND (power), 14 GND (power), 15 ~{FOUT} (out), 16 FOUT (out), 17 GND (power), 18 NC, 19 VCC2 (power), 20 S0 (in), 21 N0 (in), 22 N1 (in), 23 N2 (in), 24 BYP (in), 25 EP (power)

## HMC738LP4E
designator IC?
MMIC VCO With Half Frequency Output & Divider-by-16, 20.9 - 23.9 GHz
pins: 1 NC, 2 RFOUT/16 (out), 3 NC, 4 VCC(DIG) (power), 5 NC, 6 NC, 7 NC, 8 NC, 9 NC, 10 RFOUT/2 (out), 11 GND (power), 12 NC, 13 NC, 14 NC, 15 GND (power), 16 RFOUT (out), 17 GND (power), 18 NC, 19 NC, 20 VCC(RF) (power), 21 NC, 22 VTUNE (in), 23 NC, 24 NC, 25 EP (power)

## HMC784MS8GE
designator IC?
GaAs MMIC 10 Watt T/R Switch DC - 4 GHz
pins: 1 A (in), 2 B (in), 3 RFC (io), 4 VDD (power), 5 RF1 (io), 6 GND (power), 7 GND (power), 8 RF2 (io), 9 EP (power)

## HMC792LP4E
designator IC?
0.25 dB LSB GaAs MMIC 6-Bit Digital Attenuator
pins: 1 P/S (in), 2 CLK (in), 3 SERIN (in), 4 LE (in), 5 GND (power), 6 RF1 (in), 7 ACG1, 8 ACG2, 9 ACG3, 10 ACG4, 11 ACG5, 12 ACG6, 13 RF2 (in), 14 GND (power), 15 SEROUT (out), 16 PUP2 (in), 17 PUP1 (in), 18 VDD (power), 19 D5 (in), 20 D4 (in), 21 D3 (in), 22 D2 (in), 23 D1 (in), 24 D0 (in), 25 EP (power)

## HMC830LP6GE
designator IC?
Fractional-N PLL With Integrated VCO, 25 to 3000MHz
pins: 1 AVDD (power) "DC Power Supply for Analog Circuitry", 2 NC "The pins are not connected internally; however, all data shown herein was measured with these pins connected to rF/dC ground externally.", 3 VPPCP (power) "Power Supply for Charge Pump Analog Section", 4 CP (out) "Charge Pump Output", 5 NC "the pins are not connected internally; however, all data shown herein was measured with these pins connected to rF/dC ground externally.", 6 NC "the pins are not connected internally; however, all data shown herein was measured with these pins connected to rF/dC ground externally.", 7 VDDLS (power) "Power Supply for the Charge Pump Digital Section", 8 NC "the pins are not connected internally; however, all data shown herein was measured with these pins connected to rF/dC ground externally.", 9 NC "the pins are not connected internally; however, all data shown herein was measured with these pins connected to rF/dC ground externally.", 10 RVDD (power) "Reference Supply", 11 NC "the pins are not connected internally; however, all data shown herein was measured with these pins connected to rF/dC ground externally.", 12 NC "the pins are not connected internally; however, all data shown herein was measured with these pins connected to rF/dC ground externally.", 13 NC "the pins are not connected internally; however, all data shown herein was measured with these pins connected to rF/dC ground externally.", 14 NC "the pins are not connected internally; however, all data shown herein was measured with these pins connected to rF/dC ground externally.", 15 XREFP (in) "Reference Oscillator Input", 16 DVDD3V (power) "DC Power Supply for Digital (CMOs) Circuitry", 17 CEN (in) "Chip Enable. Connect to Logic High for Normal Operation.", 18 NC "the pins are not connected internally; however, all data shown herein was measured with these pins connected to rF/dC ground externally.", 19 NC "the pins are not connected internally; however, all data shown herein was measured with these pins connected to rF/dC ground externally.", 20 NC "the pins are not connected internally; however, all data shown herein was measured with these pins connected to rF/dC ground externally.", 21 NC "the pins are not connected internally; however, all data shown herein was measured with these pins connected to rF/dC ground externally.", 22 NC "the pins are not connected internally; however, all data shown herein was measured with these pins connected to rF/dC ground externally.", 23 VTUNE (in) "VCO Varactor. Tuning Port Input.", 24 NC "the pins are not connected internally; however, all data shown herein was measured with these pins connected to rF/dC ground externally.", 25 VCC2 (power) "VCO Analog Supply 2", 26 NC "the pins are not connected internally; however, all data shown herein was measured with these pins connected to rF/dC ground externally.", 27 VCC1 (power) "VCO Analog Supply 1", 28 RF_N (out) "RF Negative Output (On in differential configuration, On in single-ended configuration)", 29 RF_P (out) "RF Positive Output (On in differential configuration, Off in single-ended configuration)", 30 SEN (in) "PLL Serial Port Enable (CMOS) Logic Input", 31 SDI (in) "PLL Serial Port Data (CMOS) Logic Input", 32 SCK (in) "PLL Serial Port Clock (CMOS) Logic Input", 33 LD_SDO (out) "Lock Detect, or Serial Data, or General Purpose (CMOS) Logic Output (GPO)", 34 NC "the pins are not connected internally; however, all data shown herein was measured with these pins connected to rF/dC ground externally.", 35 VCCHF (power) "DC Power Supply for Analog Circuitry", 36 VCCPS (power) "DC Power Supply for Analog Prescaler", 37 NC "the pins are not connected internally; however, all data shown herein was measured with these pins connected to rF/dC ground externally.", 38 NC "the pins are not connected internally; however, all data shown herein was measured with these pins connected to rF/dC ground externally.", 39 VCCPD (power) "DC Power Supply for Phase Detector", 40 BIAS "External Bypass Decoupling for Precision Bias Circuits", 41 EP (power)

## HMC833LP6GE
designator IC?
Fractional-N PLL With Integrated VCO, 25 to 6000MHz
pins: 1 AVDD (power) "DC Power Supply for Analog Circuitry", 2 NC "The pins are not connected internally; however, all data shown herein was measured with these pins connected to rF/dC ground externally.", 3 VPPCP (power) "Power Supply for Charge Pump Analog Section", 4 CP (out) "Charge Pump Output", 5 NC "the pins are not connected internally; however, all data shown herein was measured with these pins connected to rF/dC ground externally.", 6 NC "the pins are not connected internally; however, all data shown herein was measured with these pins connected to rF/dC ground externally.", 7 VDDLS (power) "Power Supply for the Charge Pump Digital Section", 8 NC "the pins are not connected internally; however, all data shown herein was measured with these pins connected to rF/dC ground externally.", 9 NC "the pins are not connected internally; however, all data shown herein was measured with these pins connected to rF/dC ground externally.", 10 RVDD (power) "Reference Supply", 11 NC "the pins are not connected internally; however, all data shown herein was measured with these pins connected to rF/dC ground externally.", 12 NC "the pins are not connected internally; however, all data shown herein was measured with these pins connected to rF/dC ground externally.", 13 NC "the pins are not connected internally; however, all data shown herein was measured with these pins connected to rF/dC ground externally.", 14 NC "the pins are not connected internally; however, all data shown herein was measured with these pins connected to rF/dC ground externally.", 15 XREFP (in) "Reference Oscillator Input", 16 DVDD3V (power) "DC Power Supply for Digital (CMOs) Circuitry", 17 CEN (in) "Chip Enable. Connect to Logic High for Normal Operation.", 18 NC "the pins are not connected internally; however, all data shown herein was measured with these pins connected to rF/dC ground externally.", 19 NC "the pins are not connected internally; however, all data shown herein was measured with these pins connected to rF/dC ground externally.", 20 NC "the pins are not connected internally; however, all data shown herein was measured with these pins connected to rF/dC ground externally.", 21 NC "the pins are not connected internally; however, all data shown herein was measured with these pins connected to rF/dC ground externally.", 22 NC "the pins are not connected internally; however, all data shown herein was measured with these pins connected to rF/dC ground externally.", 23 VTUNE (in) "VCO Varactor. Tuning Port Input.", 24 NC "the pins are not connected internally; however, all data shown herein was measured with these pins connected to rF/dC ground externally.", 25 VCC2 (power) "VCO Analog Supply 2", 26 NC "the pins are not connected internally; however, all data shown herein was measured with these pins connected to rF/dC ground externally.", 27 VCC1 (power) "VCO Analog Supply 1", 28 RF_OUT (out) "RF Negative Output (On in differential configuration, On in single-ended configuration)", 29 NC "RF Positive Output (On in differential configuration, Off in single-ended configuration)", 30 SEN (in) "PLL Serial Port Enable (CMOS) Logic Input", 31 SDI (in) "PLL Serial Port Data (CMOS) Logic Input", 32 SCK (in) "PLL Serial Port Clock (CMOS) Logic Input", 33 LD_SDO (out) "Lock Detect, or Serial Data, or General Purpose (CMOS) Logic Output (GPO)", 34 NC "the pins are not connected internally; however, all data shown herein was measured with these pins connected to rF/dC ground externally.", 35 VCCHF (power) "DC Power Supply for Analog Circuitry", 36 VCCPS (power) "DC Power Supply for Analog Prescaler", 37 NC "the pins are not connected internally; however, all data shown herein was measured with these pins connected to rF/dC ground externally.", 38 NC "the pins are not connected internally; however, all data shown herein was measured with these pins connected to rF/dC ground externally.", 39 VCCPD (power) "DC Power Supply for Phase Detector", 40 BIAS "External Bypass Decoupling for Precision Bias Circuits", 41 EP (power)

## HMC849ALP4CE
designator IC?
High Isolation SPDT Non-Reflective Switch SMT, DC - 6 GHz
pins: 1 VDD (power), 2 VCTL (in), 3 RFC (io), 4 NC, 5 EN (in), 6 NC, 7 NC, 8 NC, 9 RF1 (io), 10 GND (power), 11 GND (power), 12 RF2 (io), 13 NC, 14 NC, 15 NC, 16 NC, 17 GND (power)
2 alternate drawings of the same symbol
text: 50

## HMC1031MS8E
designator IC?
0.1 MHz to 500 MHz Clock Generator with Integer N PLL
pins: 1 VCC (power), 2 REFIN (in), 3 LKDOP (out), 4 D0 (in), 5 D1 (in), 6 VCOIN (in), 7 CP (out), 8 GND (power)

## HMC7043LP7FE
designator IC?
High Performance, 3.2 GHz, 14-Output Fanout Buffer
pins: 1 CLKOUT0 (out), 2 ~{CLKOUT0} (out), 3 SCLKOUT1 (out), 4 ~{SCLKOUT1} (out), 5 RESET (in), 6 BGAPBYP1, 7 LDOBYP2, 8 VCC1_CLKDIST (power), 9 SCLKOUT3 (out), 10 ~{SCLKOUT3} (out), 11 CLKOUT2 (out), 12 ~{CLKOUT2} (out), 13 VCC2_OUT (power), 14 RSV, 15 SCLKOUT5 (out), 16 ~{SCLKOUT5} (out), 17 CLKOUT4 (out), 18 ~{CLKOUT4} (out), 19 VCC3_OUT (power), 20 CLKOUT6 (out), 21 ~{CLKOUT6} (out), 22 SCLKOUT7 (out), 23 ~{SCLKOUT7} (out), 24 RSV, 25 ~{CLKIN} (in), 26 CLKIN (in), 27 VCC4_CLKIN (power), 28 RFSYNCIN (in), 29 ~{RFSYNCIN} (in), 30 VCC5_SYSREF (power), 31 SLEN (io), 32 SCLK (io), 33 SDATA (io), 34 GPIO (io), 35 SCLKOUT9 (out), 36 ~{SCLKOUT9} (out), 37 CLKOUT8 (out), 38 ~{CLKOUT8} (out), 39 VCC6_OUT (power), 40 CLKOUT10 (out), 41 ~{CLKOUT10} (out), 42 SCLKOUT11 (out), 43 ~{SCLKOUT11} (out), 44 SCLKOUT13 (out), 45 ~{SCLKOUT13} (out), 46 CLKOUT12 (out), 47 ~{CLKOUT12} (out), 48 VCC7_OUT (power), 49 EP (power)

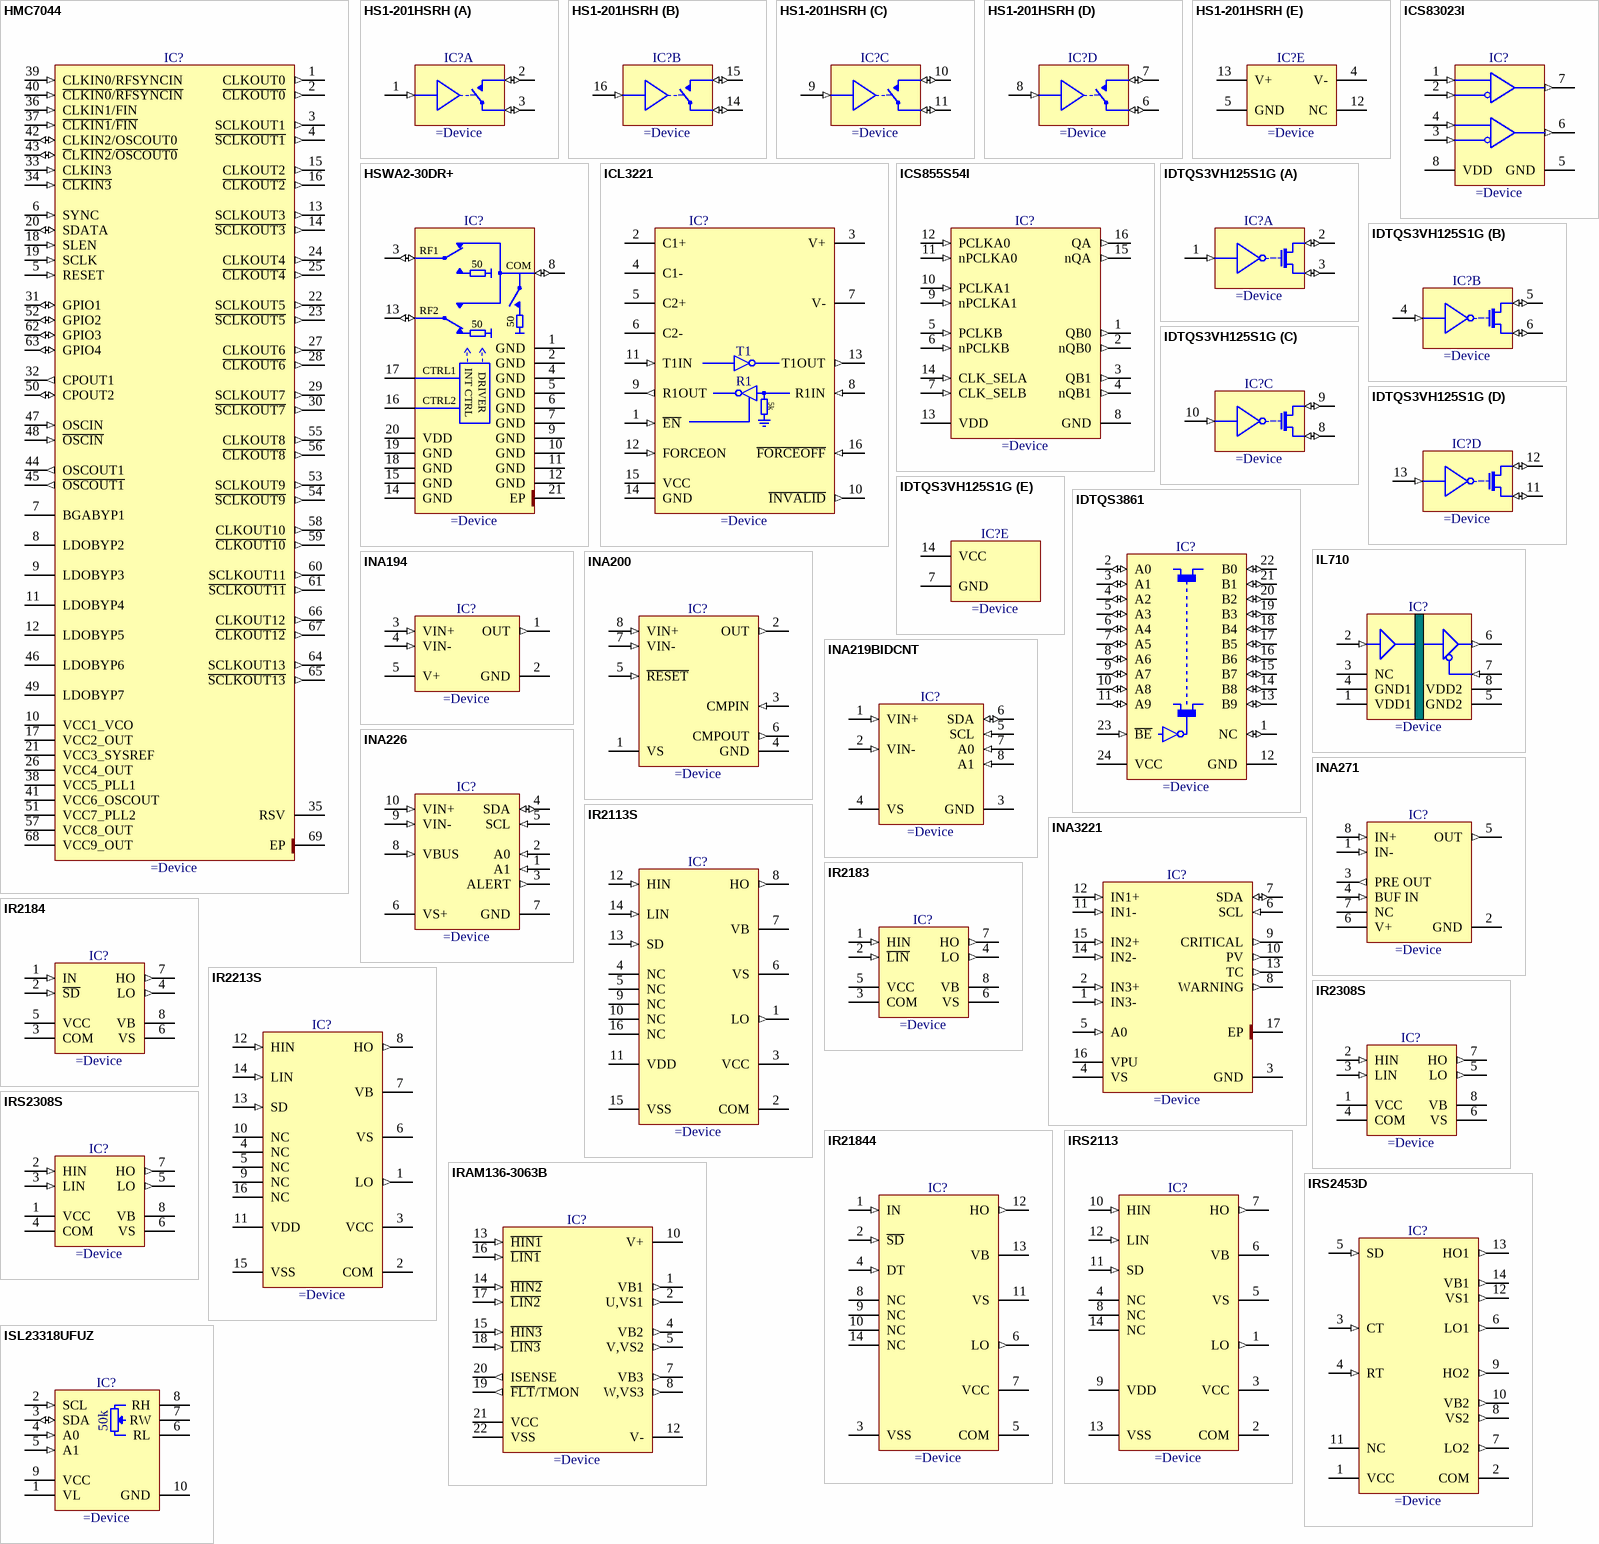
[diagram p37: symbols HMC7044 to ISL23318UFUZ]

## HMC7044
designator IC?
High Performance, 3.2 GHz, 14-Output Jitter Attenuator with JESD204B
pins: 1 CLKOUT0 (out), 2 ~{CLKOU}~{T0} (out), 3 SCLKOUT1 (out), 4 ~{SCLKOUT1} (out), 5 RESET (in), 6 SYNC (in), 7 BGABYP1, 8 LDOBYP2, 9 LDOBYP3, 10 VCC1_VCO (power), 11 LDOBYP4, 12 LDOBYP5, 13 SCLKOUT3 (out), 14 ~{SCLKOUT3} (out), 15 CLKOUT2 (out), 16 ~{CLKOUT2} (out), 17 VCC2_OUT (power), 18 SLEN (in), 19 SCLK (in), 20 SDATA (io), 21 VCC3_SYSREF (power), 22 SCLKOUT5 (out), 23 ~{SCLKOUT5} (out), 24 CLKOUT4 (out), 25 ~{CLKOUT4} (out), 26 VCC4_OUT (power), 27 CLKOUT6 (out), 28 ~{CLKOUT6} (out), 29 SCLKOUT7 (out), 30 ~{SCLKOUT7} (out), 31 GPIO1 (io), 32 CPOUT1 (out), 33 CLKIN3 (in), 34 ~{CLKIN3} (in), 35 RSV, 36 CLKIN1/FIN (in), 37 ~{CLKIN1}/~{FIN} (in), 38 VCC5_PLL1 (power), 39 CLKIN0/RFSYNCIN (in), 40 ~{CLKIN0}/~{RFSYNCIN} (in), 41 VCC6_OSCOUT (power), 42 CLKIN2/OSCOUT0 (io), 43 ~{C}L~{KIN2}/~{OSCOUT0} (io), 44 OSCOUT1 (out), 45 ~{OSCOUT1} (out), 46 LDOBYP6, 47 OSCIN (in), 48 ~{OSCIN} (in), 49 LDOBYP7, 50 CPOUT2 (io), 51 VCC7_PLL2 (power), 52 GPIO2 (io), 53 SCLKOUT9 (out), 54 ~{SCLKOUT9} (out), 55 CLKOUT8 (out), 56 ~{CLKOUT8} (out), 57 VCC8_OUT (power), 58 CLKOUT10 (out), 59 ~{CLKOUT10} (out), 60 SCLKOUT11 (out), 61 ~{SCLKOUT11} (out), 62 GPIO3 (io), 63 GPIO4 (io), 64 SCLKOUT13 (out), 65 ~{SCLKOUT13} (out), 66 CLKOUT12 (out), 67 ~{CLKOUT12} (out), 68 VCC9_OUT (power), 69 EP (power)

## HS1-201HSRH
designator IC?
Radiation Hardened High Speed, Quad SPST CMOS Analog  Switch
part A pins: 1 A (in), 2 OUT (io), 3 IN (io)
part B pins: 14 IN (io), 15 OUT (io), 16 A (in)
part C pins: 9 A (in), 10 OUT (io), 11 IN (io)
part D pins: 6 IN (io), 7 OUT (io), 8 A (in)
part E pins: 4 V- (power), 5 GND (power), 12 NC (power), 13 V+ (power)

## HSWA2-30DR+
designator IC?
Absorptive SPDT RF Switch with Internal Driver, 50 Ohms, DC-3000MHz
pins: 1 GND (power), 2 GND (power), 3 RF1 (io), 4 GND (power), 5 GND (power), 6 GND (power), 7 GND (power), 8 RF COM (io), 9 GND (power), 10 GND (power), 11 GND (power), 12 GND (power), 13 RF2 (io), 14 GND (power), 15 GND (power), 16 CTRL2 (power), 17 CTRL1 (power), 18 GND (power), 19 GND (power), 20 VDD (power), 21 EP (power)
text: 50; COM; INT CTRL; DRIVER

## ICL3221
designator IC?
One Microamp Supply-Current, +3V to +5.5V, 250kbps, RS-232 Transmitters/Receivers
pins: 1 ~{EN} (in), 2 C1+, 3 V+ (power), 4 C1-, 5 C2+, 6 C2-, 7 V- (power), 8 R1IN (in), 9 R1OUT (out), 10 ~{INVALID} (out), 11 T1IN (in), 12 FORCEON (in), 13 T1OUT (out), 14 GND (power), 15 VCC (power), 16 ~{FORCEOFF} (in)
text: T1; R1; 5k

## ICS855S54I
designator IC?
Dual 2:1 and 1:2 Differential-to-LVDS Multiplexer
pins: 1 QB0 (out), 2 nQB0 (out), 3 QB1 (out), 4 nQB1 (out), 5 PCLKB (in), 6 nPCLKB (in), 7 CLK_SELB (in), 8 GND (power), 9 nPCLKA1 (in), 10 PCLKA1 (in), 11 nPCLKA0 (in), 12 PCLKA0 (in), 13 VDD (power), 14 CLK_SELA (in), 15 nQA (out), 16 QA (out)

## ICS83023I
designator IC?
Dual, 1-to-1 Differential-to-LVCMOS Translator/Buffer
pins: 1 CLK0 (in), 2 ~{CLK0} (in), 3 ~{CLK1} (in), 4 CLK1 (in), 5 GND (power), 6 Q1 (out), 7 Q0 (out), 8 VDD (power)

## IDTQS3VH125S1G
designator IC?
QuickSwitch 2.5V / 3.3V Quad Active Low, High Bandwidth Bus Switch
part A pins: 1 ~{OE} (in), 2 A (io), 3 Y (io)
part B pins: 4 ~{OE} (in), 5 A (io), 6 Y (io)
part C pins: 8 Y (io), 9 A (io), 10 ~{OE} (in)
part D pins: 11 Y (io), 12 A (io), 13 ~{OE} (in)
part E pins: 7 GND (power), 14 VCC (power)

## IDTQS3861
designator IC?
High-Speed CMOS 10-Bit Bus Switch With Flow-Through Pinout (QUICKSWITCH® Product)
pins: 1 NC (io), 2 A0 (io), 3 A1 (io), 4 A2 (io), 5 A3 (io), 6 A4 (io), 7 A5 (io), 8 A6 (io), 9 A7 (io), 10 A8 (io), 11 A9 (io), 12 GND (power), 13 B9 (io), 14 B8 (io), 15 B7 (io), 16 B6 (io), 17 B5 (io), 18 B4 (io), 19 B3 (io), 20 B2 (io), 21 B1 (io), 22 B0 (io), 23 ~{BE} (in), 24 VCC (power)

## IL710
designator IC?
High Speed/High Temperature Digital Isolators
pins: 1 VDD1 (power), 2 IN (in), 3 NC, 4 GND1 (power), 5 GND2 (power), 6 OUT (out), 7 ~{OE} (in), 8 VDD2 (power)

## INA194
designator IC?
Current Shunt Monitor -16V to +80V Common-Mode Range
pins: 1 OUT (out), 2 GND (power), 3 VIN+ (in), 4 VIN- (in), 5 V+ (power)

## INA200
designator IC?
High-Side Measurement Current-Shunt Monitor With Open-Drain Comparator and Reference
pins: 1 VS (power), 2 OUT (out), 3 CMPIN (in), 4 GND (power), 5 ~{RESET} (in), 6 CMPOUT (out), 7 VIN- (in), 8 VIN+ (in)

## INA219BIDCNT
designator IC?
Zero-Drift, Bi-Directional CURRENT/POWER MONITOR with I2C™ Interface
pins: 1 VIN+ (in), 2 VIN- (in), 3 GND (power), 4 VS (power), 5 SCL (in), 6 SDA (io), 7 A0 (in), 8 A1 (in)

## INA226
designator IC?
High-or Low Side Measurement, Bi-Directional Current/Power Monitor with I2C Interface
pins: 1 A1 (in), 2 A0 (in), 3 ALERT (out), 4 SDA (io), 5 SCL (in), 6 VS+ (power), 7 GND (power), 8 VBUS (in), 9 VIN- (in), 10 VIN+ (in)

## INA271
designator IC?
Voltage Output, Unidirectional Measurement Current-Shunt Monitor
pins: 1 IN- (in), 2 GND (power), 3 PRE OUT (out), 4 BUF IN (in), 5 OUT (out), 6 V+ (power), 7 NC, 8 IN+ (in)

## INA3221
designator IC?
Triple-Channel, High-Side Measurement, Shunt and Bus Voltage Monitor With I2C and SMBUS-Compatible Interface
pins: 1 IN3- (in), 2 IN3+ (in), 3 GND (power), 4 VS (power), 5 A0 (in), 6 SCL (in), 7 SDA (io), 8 WARNING (out), 9 CRITICAL (out), 10 PV (out), 11 IN1- (in), 12 IN1+ (in), 13 TC (out), 14 IN2- (in), 15 IN2+ (in), 16 VPU (power), 17 EP (power)

## IR2113S
designator IC?
High And Low Side Driver
pins: 1 LO (out), 2 COM (power), 3 VCC (power), 4 NC, 5 NC, 6 VS (power), 7 VB (power), 8 HO (out), 9 NC, 10 NC, 11 VDD (power), 12 HIN (in), 13 SD (in), 14 LIN (in), 15 VSS (power), 16 NC

## IR2183
designator IC?
Half-Bridge Driver
pins: 1 HIN (in), 2 ~{LIN} (in), 3 COM (power), 4 LO (out), 5 VCC (power), 6 VS (power), 7 HO (out), 8 VB (power)

## IR2184
designator IC?
Half-Bridge Driver
pins: 1 IN (in), 2 ~{SD} (in), 3 COM (power), 4 LO (out), 5 VCC (power), 6 VS (power), 7 HO (out), 8 VB (power)

## IR2213S
designator IC?
High And Low Side Driver
pins: 1 LO (out), 2 COM (power), 3 VCC (power), 4 NC, 5 NC, 6 VS (power), 7 VB (power), 8 HO (out), 9 NC, 10 NC, 11 VDD (power), 12 HIN (in), 13 SD (in), 14 LIN (in), 15 VSS (power), 16 NC

## IR2308S
designator IC?
Half-Bridge Driver
pins: 1 VCC (power), 2 HIN (in), 3 LIN (in), 4 COM (power), 5 LO (out), 6 VS (power), 7 HO (out), 8 VB (power)

## IR21844
designator IC?
Half-Bridge Driver
pins: 1 IN (in), 2 ~{SD} (in), 3 VSS (power), 4 DT (in), 5 COM (power), 6 LO (out), 7 VCC (power), 8 NC, 9 NC, 10 NC, 11 VS (power), 12 HO (out), 13 VB (power), 14 NC

## IRAM136-3063B
designator IC?
Integrated Power Hybrid IC for High Voltage Motor Applications
pins: 1 VB1 (out), 2 U,VS1 (out), 4 VB2 (out), 5 V,VS2 (out), 7 VB3 (out), 8 W,VS3 (out), 10 V+ (power), 12 V- (power), 13 ~{HIN1} (in), 14 ~{HIN2} (in), 15 ~{HIN3} (in), 16 ~{LIN1} (in), 17 ~{LIN2} (in), 18 ~{LIN3} (in), 19 ~{FLT}/TMON (out), 20 ISENSE (out), 21 VCC (power), 22 VSS (power)

## IRS2113
designator IC?
High And Low Side Driver
pins: 1 LO (out), 2 COM (power), 3 VCC (power), 4 NC, 5 VS (power), 6 VB (power), 7 HO (out), 8 NC, 9 VDD (power), 10 HIN (in), 11 SD (in), 12 LIN (in), 13 VSS (power), 14 NC

## IRS2308S
designator IC?
Half-Bridge Driver
pins: 1 VCC (power), 2 HIN (in), 3 LIN (in), 4 COM (power), 5 LO (out), 6 VS (power), 7 HO (out), 8 VB (power)

## IRS2453D
designator IC?
Self-Oscillating Full Bridge Driver IC
pins: 1 VCC (power), 2 COM (power), 3 CT (in), 4 RT (in), 5 SD (in), 6 LO1 (out), 7 LO2 (out), 8 VS2 (out), 9 HO2 (out), 10 VB2 (out), 11 NC, 12 VS1 (out), 13 HO1 (out), 14 VB1 (out)

## ISL23318UFUZ
designator IC?
Single 50k, 128-taps Low Voltage Digitally Controlled Potentiometer (XDCP)
pins: 1 VL (power), 2 SCL (in), 3 SDA (io), 4 A0 (in), 5 A1 (in), 6 RL, 7 RW, 8 RH, 9 VCC (power), 10 GND (power)
text: 50k

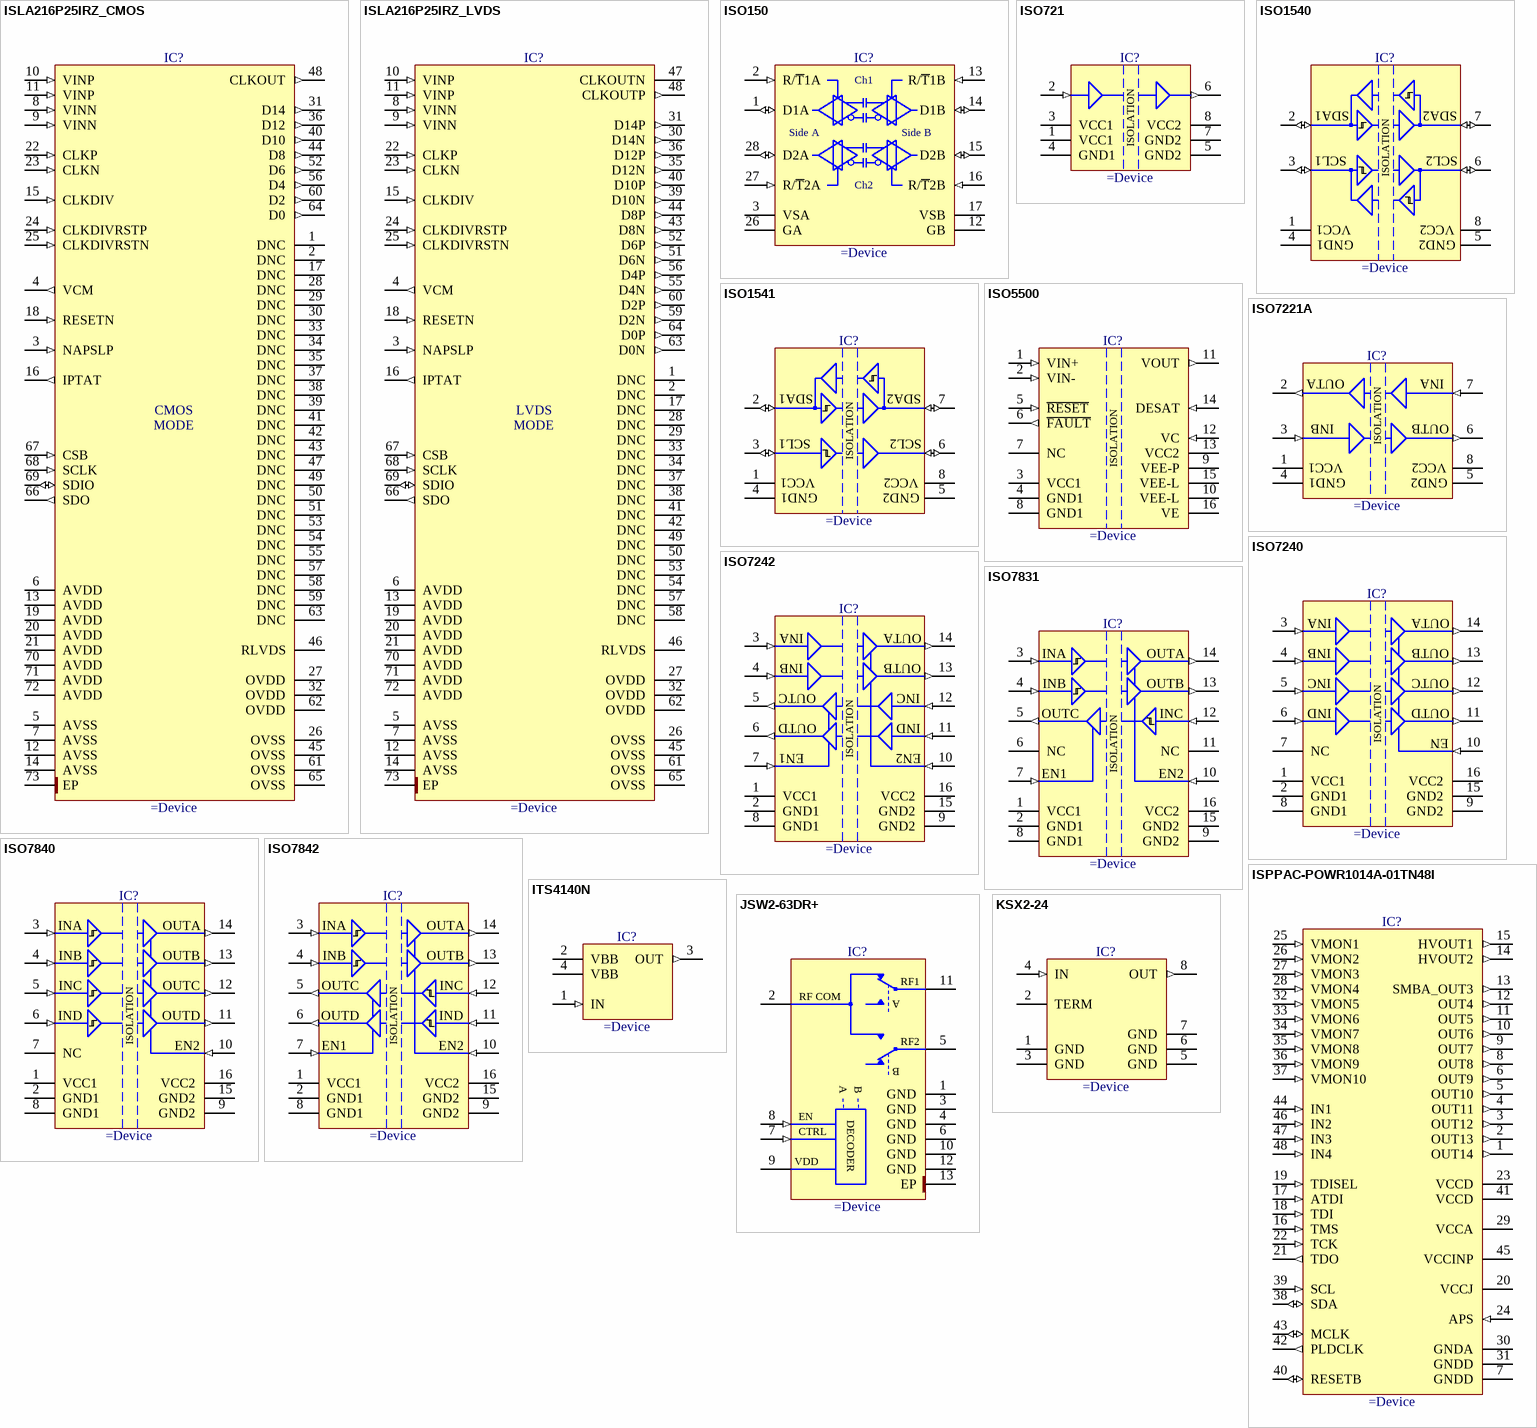
[diagram p38: symbols ISLA216P25IRZ_CMOS to KSX2-24]

## ISLA216P25IRZ_CMOS
designator IC?
16-Bit, 250MSPS ADC (CMOS Mode)
pins: 1 DNC, 2 DNC, 3 NAPSLP (in), 4 VCM (out), 5 AVSS (power), 6 AVDD (power), 7 AVSS (power), 8 VINN (in), 9 VINN (in), 10 VINP (in), 11 VINP (in), 12 AVSS (power), 13 AVDD (power), 14 AVSS (power), 15 CLKDIV (in), 16 IPTAT (out), 17 DNC, 18 RESETN (in), 19 AVDD (power), 20 AVDD (power), 21 AVDD (power), 22 CLKP (in), 23 CLKN (in), 24 CLKDIVRSTP (in), 25 CLKDIVRSTN (in), 26 OVSS (power), 27 OVDD (power), 28 DNC, 29 DNC, 30 DNC, 31 D14 (out), 32 OVDD (power), 33 DNC, 34 DNC, 35 DNC, 36 D12 (out), 37 DNC, 38 DNC, 39 DNC, 40 D10 (out), 41 DNC, 42 DNC, 43 DNC, 44 D8 (out), 45 OVSS (power), 46 RLVDS, 47 DNC (oc), 48 CLKOUT (out), 49 DNC, 50 DNC, 51 DNC, 52 D6 (out), 53 DNC, 54 DNC, 55 DNC, 56 D4 (out), 57 DNC, 58 DNC, 59 DNC, 60 D2 (out), 61 OVSS (power), 62 OVDD (power), 63 DNC, 64 D0 (out), 65 OVSS (power), 66 SDO (out), 67 CSB (in), 68 SCLK (in), 69 SDIO (io), 70 AVDD (power), 71 AVDD (power), 72 AVDD (power), 73 EP (power)
text: CMOS; MODE

## ISLA216P25IRZ_LVDS
designator IC?
16-Bit, 250MSPS ADC (LVDS Mode)
pins: 1 DNC, 2 DNC, 3 NAPSLP (in), 4 VCM (out), 5 AVSS (power), 6 AVDD (power), 7 AVSS (power), 8 VINN (in), 9 VINN (in), 10 VINP (in), 11 VINP (in), 12 AVSS (power), 13 AVDD (power), 14 AVSS (power), 15 CLKDIV (in), 16 IPTAT (out), 17 DNC, 18 RESETN (in), 19 AVDD (power), 20 AVDD (power), 21 AVDD (power), 22 CLKP (in), 23 CLKN (in), 24 CLKDIVRSTP (in), 25 CLKDIVRSTN (in), 26 OVSS (power), 27 OVDD (power), 28 DNC, 29 DNC, 30 D14N (out), 31 D14P (out), 32 OVDD (power), 33 DNC, 34 DNC, 35 D12N (out), 36 D12P (out), 37 DNC, 38 DNC, 39 D10N (out), 40 D10P (out), 41 DNC, 42 DNC, 43 D8N (out), 44 D8P (out), 45 OVSS (power), 46 RLVDS, 47 CLKOUTN (oc), 48 CLKOUTP (out), 49 DNC, 50 DNC, 51 D6N (out), 52 D6P (out), 53 DNC, 54 DNC, 55 D4N (out), 56 D4P (out), 57 DNC, 58 DNC, 59 D2N (out), 60 D2P (out), 61 OVSS (power), 62 OVDD (power), 63 D0N (out), 64 D0P (out), 65 OVSS (power), 66 SDO (out), 67 CSB (in), 68 SCLK (in), 69 SDIO (io), 70 AVDD (power), 71 AVDD (power), 72 AVDD (power), 73 EP (power)
text: LVDS; MODE

## ISO150
designator IC?
Dual, Isolated, Bi-Directional Digital Coupler
pins: 1 D1A (io), 2 R/~{T}1A (in), 3 VSA (power), 12 GB (power), 13 R/~{T}1B (in), 14 D1B (io), 15 D2B (io), 16 R/~{T}2B (in), 17 VSB (power), 26 GA (power), 27 R/~{T}2A (in), 28 D2A (io)
text: Ch1; Side A; Side B; Ch2

## ISO721
designator IC?
Single 150Mbps Digital Isolator
pins: 1 VCC1 (power), 2 IN (in), 3 VCC1 (power), 4 GND1 (power), 5 GND2 (power), 6 OUT (out), 7 GND2 (power), 8 VCC2 (power)
text: ISOLATION

## ISO1540
designator IC?
Low-Power Bi-Directional I2C Isolator
pins: 1 VCC1 (power), 2 SDA1 (io), 3 SCL1 (io), 4 GND1 (power), 5 GND2 (power), 6 SCL2 (io), 7 SDA2 (io), 8 VCC2 (power)
text: ISOLATION

## ISO1541
designator IC?
Low-Power Bi-Directional I2C Isolator
pins: 1 VCC1 (power), 2 SDA1 (io), 3 SCL1 (io), 4 GND1 (power), 5 GND2 (power), 6 SCL2 (io), 7 SDA2 (io), 8 VCC2 (power)
text: ISOLATION

## ISO5500
designator IC?
2.5-A Isolated IGBT, MOSFET Gate Driver
pins: 1 VIN+ (in), 2 VIN- (in), 3 VCC1 (power), 4 GND1 (power), 5 ~{RESET} (in), 6 ~{FAULT} (out), 7 NC, 8 GND1 (power), 9 VEE-P (power), 10 VEE-L (power), 11 VOUT (out), 12 VC (in), 13 VCC2 (power), 14 DESAT (in), 15 VEE-L (power), 16 VE (power)
text: ISOLATION

## ISO7221A
designator IC?
Dual Channel Digital Isolator
pins: 1 VCC1 (power), 2 OUTA (out), 3 INB (in), 4 GND1 (power), 5 GND2 (power), 6 OUTB (out), 7 INA (in), 8 VCC2 (power)
text: ISOLATION

## ISO7240
designator IC?
Quad Channel, 150Mbps, Digital Isolator
pins: 1 VCC1 (power), 2 GND1 (power), 3 INA (in), 4 INB (in), 5 INC (in), 6 IND (in), 7 NC, 8 GND1 (power), 9 GND2 (power), 10 EN (in), 11 OUTD (out), 12 OUTC (out), 13 OUTB (out), 14 OUTA (out), 15 GND2 (power), 16 VCC2 (power)
text: ISOLATION

## ISO7242
designator IC?
Quad Channel (Two Channels in Each Direction), 150Mbps, Digital Isolator
pins: 1 VCC1 (power), 2 GND1 (power), 3 INA (in), 4 INB (in), 5 OUTC (out), 6 OUTD (out), 7 EN1 (in), 8 GND1 (power), 9 GND2 (power), 10 EN2 (in), 11 IND (in), 12 INC (in), 13 OUTB (out), 14 OUTA (out), 15 GND2 (power), 16 VCC2 (power)
text: ISOLATION

## ISO7831
designator IC?
High-Performance, 8000VPK Reinforced Triple Digital Isolator
pins: 1 VCC1 (power), 2 GND1 (power), 3 INA (in), 4 INB (in), 5 OUTC (out), 6 NC, 7 EN1 (in), 8 GND1 (power), 9 GND2 (power), 10 EN2 (in), 11 NC, 12 INC (in), 13 OUTB (out), 14 OUTA (out), 15 GND2 (power), 16 VCC2 (power)
text: ISOLATION

## ISO7840
designator IC?
High-Performance, 8000VPK Reinforced Quad-Channel Digital Isolator
pins: 1 VCC1 (power), 2 GND1 (power), 3 INA (in), 4 INB (in), 5 INC (in), 6 IND (in), 7 NC, 8 GND1 (power), 9 GND2 (power), 10 EN2 (in), 11 OUTD (out), 12 OUTC (out), 13 OUTB (out), 14 OUTA (out), 15 GND2 (power), 16 VCC2 (power)
text: ISOLATION

## ISO7842
designator IC?
High-Performance, 8000VPK Reinforced Quad-Channel Digital Isolator
pins: 1 VCC1 (power), 2 GND1 (power), 3 INA (in), 4 INB (in), 5 OUTC (out), 6 OUTD (out), 7 EN1 (in), 8 GND1 (power), 9 GND2 (power), 10 EN2 (in), 11 IND (in), 12 INC (in), 13 OUTB (out), 14 OUTA (out), 15 GND2 (power), 16 VCC2 (power)
text: ISOLATION

## ISPPAC-POWR1014A-01TN48I
designator IC?
In-System Programmable Power Supply Supervisor, Reset Generator and Sequencing Controller
pins: 1 OUT14 (out), 2 OUT13 (out), 3 OUT12 (out), 4 OUT11 (out), 5 OUT10 (out), 6 OUT9 (out), 7 GNDD (power), 8 OUT8 (out), 9 OUT7 (out), 10 OUT6 (out), 11 OUT5 (out), 12 OUT4 (out), 13 SMBA_OUT3 (out), 14 HVOUT2 (out), 15 HVOUT1 (out), 16 TMS (in), 17 ATDI (in), 18 TDI (in), 19 TDISEL (in), 20 VCCJ (power), 21 TDO (out), 22 TCK (in), 23 VCCD (power), 24 APS (in), 25 VMON1 (in), 26 VMON2 (in), 27 VMON3 (in), 28 VMON4 (in), 29 VCCA (power), 30 GNDA (power), 31 GNDD (power), 32 VMON5 (in), 33 VMON6 (in), 34 VMON7 (in), 35 VMON8 (in), 36 VMON9 (in), 37 VMON10 (in), 38 SDA (io), 39 SCL (in), 40 RESETB (io), 41 VCCD (power), 42 PLDCLK (out), 43 MCLK (io), 44 IN1 (in), 45 VCCINP (power), 46 IN2 (in), 47 IN3 (in), 48 IN4 (in)

## ITS4140N
designator IC?
0.2A Smart High-Side Power Switch for Industrial Applications One channel: 1 x 1 Ohm
pins: 1 IN (in), 2 VBB (power), 3 OUT (out), 4 VBB (power)

## JSW2-63DR+
designator IC?
SPDT RF Switch, 50 Ohm, 5 to 6000MHz, High Power 3W
pins: 1 GND (power), 2 RF COM, 3 GND (power), 4 GND (power), 5 RF2, 6 GND (power), 7 CTRL (in), 8 EN (in), 9 VDD (power), 10 GND (power), 11 RF1, 12 GND (power), 13 EP (power)
text: A; B; DECODER

## KSX2-24
designator IC?
50 OHM 10 to 20GHz Frequency Multiplier
pins: 1 GND (power), 2 TERM, 3 GND (power), 4 IN (in), 5 GND (power), 6 GND (power), 7 GND (power), 8 OUT (out)

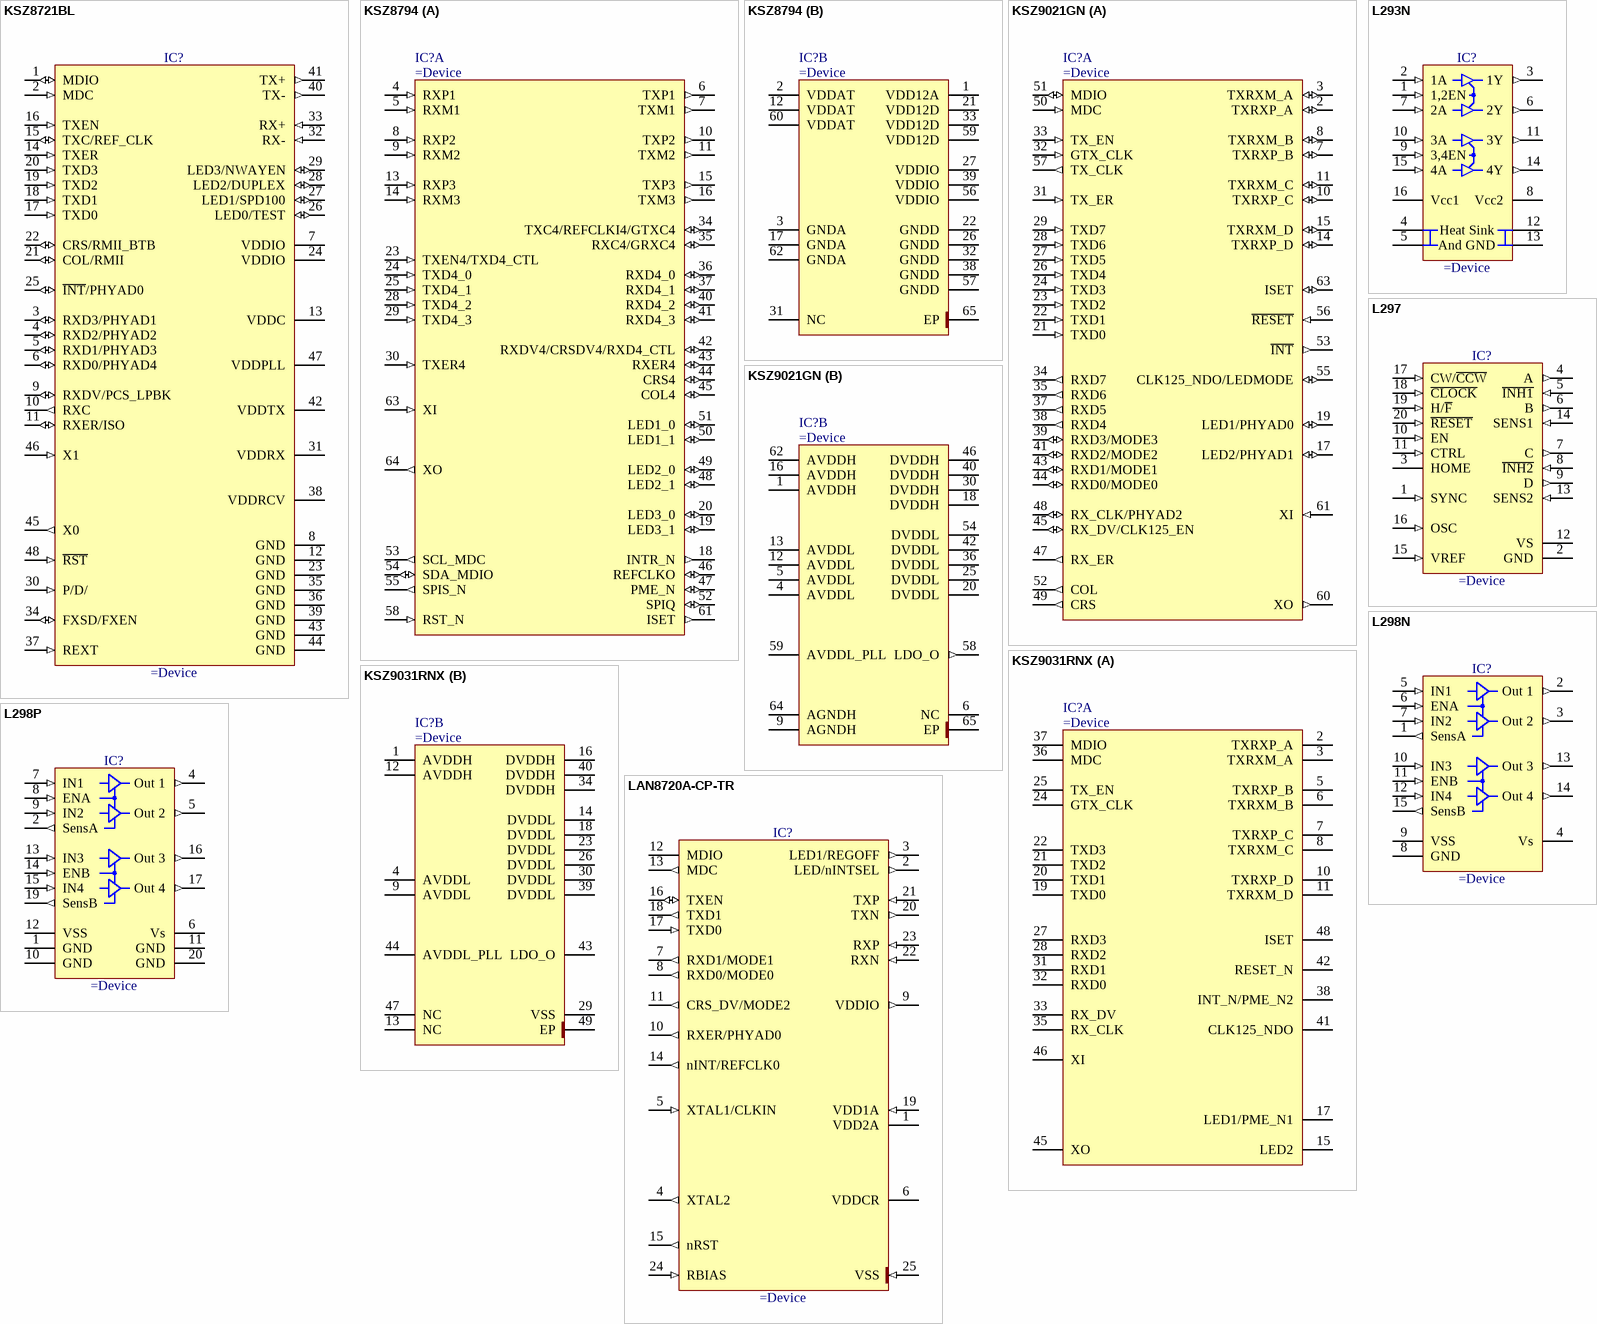
[diagram p39: symbols KSZ8721BL to LAN8720A-CP-TR]